# Altium integrated library altera.IntLib: 68 symbols (part 1 of 6)
Pins are listed as number, name and electrical type; pins without a type are passive.

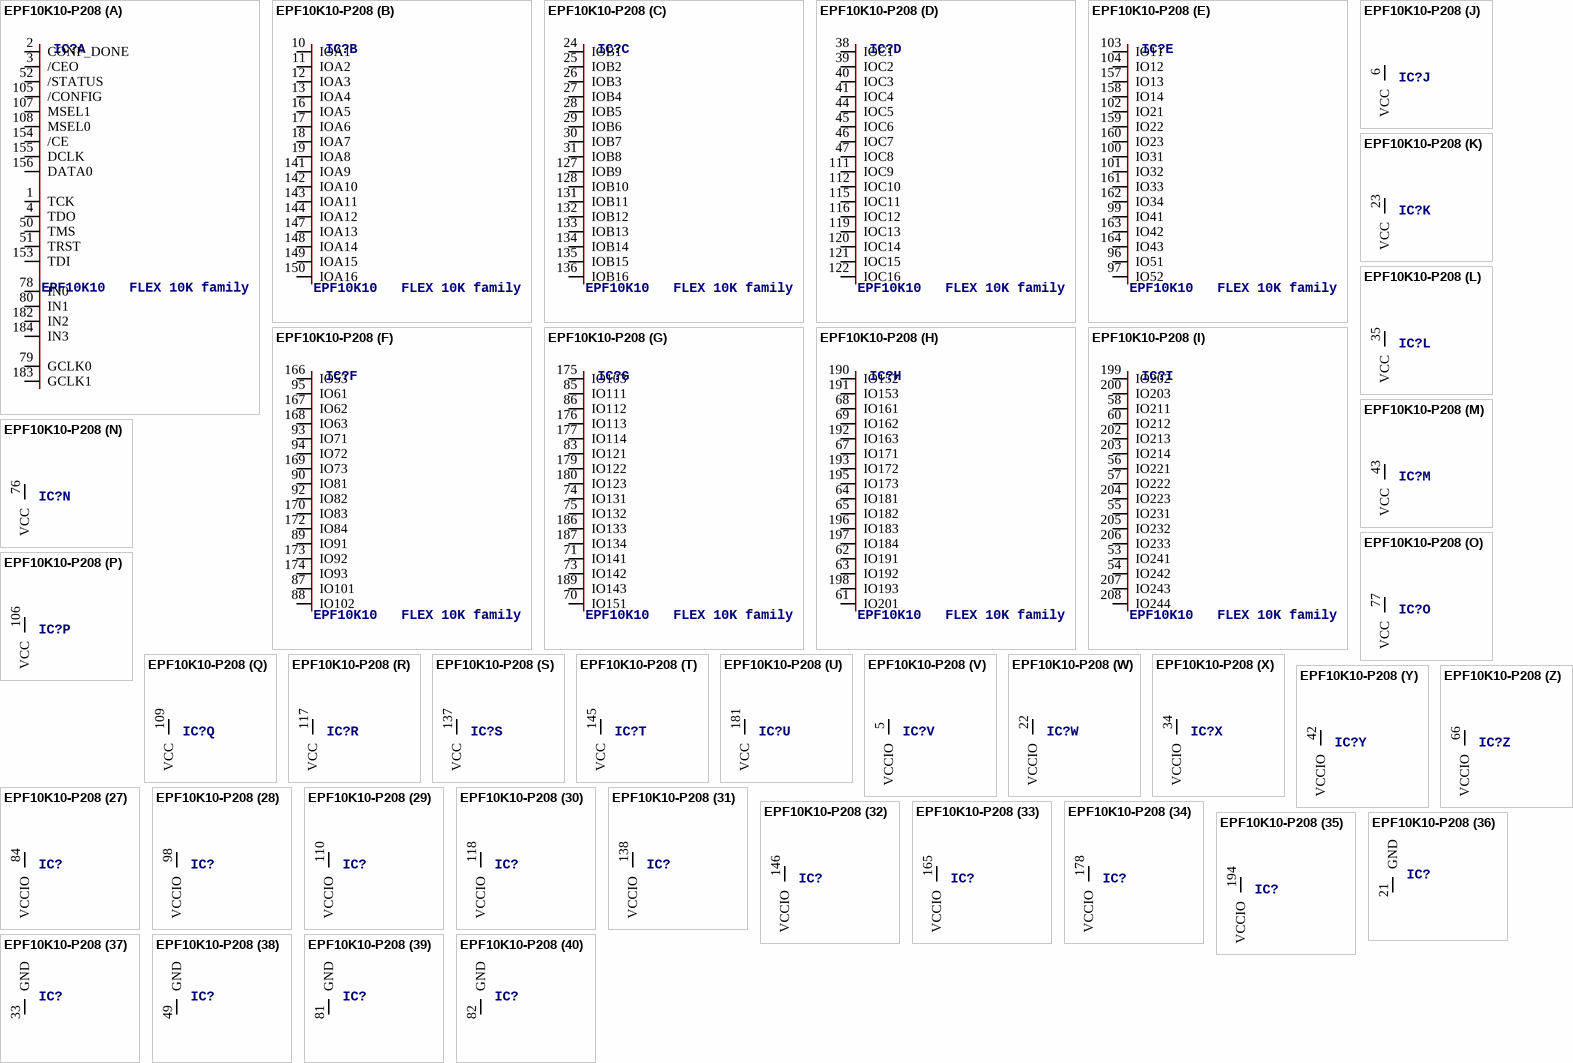
[diagram p0: symbol EPF10K10-P208]

## EPF10K10-P208
designator IC?, comment EPF10K10   FLEX 10K family
MPN: EPF10K10AQC208-3N; OC_FARNELL: 1549381; OC_NEWARK: 51R8749
footprint PQFP208
part A pins: 1 TCK, 2 CONF_DONE, 3 /CEO, 4 TDO, 50 TMS, 51 TRST, 52 /STATUS, 78 IN0, 79 GCLK0, 80 IN1, 105 /CONFIG, 107 MSEL1, 108 MSEL0, 153 TDI, 154 /CE, 155 DCLK, 156 DATA0, 182 IN2, 183 GCLK1, 184 IN3
part B pins: 10 IOA1, 11 IOA2, 12 IOA3, 13 IOA4, 16 IOA5, 17 IOA6, 18 IOA7, 19 IOA8, 141 IOA9, 142 IOA10, 143 IOA11, 144 IOA12, 147 IOA13, 148 IOA14, 149 IOA15, 150 IOA16
part C pins: 24 IOB1, 25 IOB2, 26 IOB3, 27 IOB4, 28 IOB5, 29 IOB6, 30 IOB7, 31 IOB8, 127 IOB9, 128 IOB10, 131 IOB11, 132 IOB12, 133 IOB13, 134 IOB14, 135 IOB15, 136 IOB16
part D pins: 38 IOC1, 39 IOC2, 40 IOC3, 41 IOC4, 44 IOC5, 45 IOC6, 46 IOC7, 47 IOC8, 111 IOC9, 112 IOC10, 115 IOC11, 116 IOC12, 119 IOC13, 120 IOC14, 121 IOC15, 122 IOC16
part E pins: 96 IO51, 97 IO52, 99 IO41, 100 IO31, 101 IO32, 102 IO21, 103 IO11, 104 IO12, 157 IO13, 158 IO14, 159 IO22, 160 IO23, 161 IO33, 162 IO34, 163 IO42, 164 IO43
part F pins: 87 IO101, 88 IO102, 89 IO91, 90 IO81, 92 IO82, 93 IO71, 94 IO72, 95 IO61, 166 IO53, 167 IO62, 168 IO63, 169 IO73, 170 IO83, 172 IO84, 173 IO92, 174 IO93
part G pins: 70 IO151, 71 IO141, 73 IO142, 74 IO131, 75 IO132, 83 IO121, 85 IO111, 86 IO112, 175 IO103, 176 IO113, 177 IO114, 179 IO122, 180 IO123, 186 IO133, 187 IO134, 189 IO143
part H pins: 61 IO201, 62 IO191, 63 IO192, 64 IO181, 65 IO182, 67 IO171, 68 IO161, 69 IO162, 190 IO152, 191 IO153, 192 IO163, 193 IO172, 195 IO173, 196 IO183, 197 IO184, 198 IO193
part I pins: 53 IO241, 54 IO242, 55 IO231, 56 IO221, 57 IO222, 58 IO211, 60 IO212, 199 IO202, 200 IO203, 202 IO213, 203 IO214, 204 IO223, 205 IO232, 206 IO233, 207 IO243, 208 IO244
part J pins: 6 VCC (power)
part K pins: 23 VCC (power)
part L pins: 35 VCC (power)
part M pins: 43 VCC (power)
part N pins: 76 VCC (power)
part O pins: 77 VCC (power)
part P pins: 106 VCC (power)
part Q pins: 109 VCC (power)
part R pins: 117 VCC (power)
part S pins: 137 VCC (power)
part T pins: 145 VCC (power)
part U pins: 181 VCC (power)
part V pins: 5 VCCIO (power)
part W pins: 22 VCCIO (power)
part X pins: 34 VCCIO (power)
part Y pins: 42 VCCIO (power)
part Z pins: 66 VCCIO (power)
part 27 pins: 84 VCCIO (power)
part 28 pins: 98 VCCIO (power)
part 29 pins: 110 VCCIO (power)
part 30 pins: 118 VCCIO (power)
part 31 pins: 138 VCCIO (power)
part 32 pins: 146 VCCIO (power)
part 33 pins: 165 VCCIO (power)
part 34 pins: 178 VCCIO (power)
part 35 pins: 194 VCCIO (power)
part 36 pins: 21 GND (power)
part 37 pins: 33 GND (power)
part 38 pins: 49 GND (power)
part 39 pins: 81 GND (power)
part 40 pins: 82 GND (power)
part 41 pins: 123 GND (power)
part 42 pins: 129 GND (power)
part 43 pins: 151 GND (power)
part 44 pins: 185 GND (power)
part 45 pins: 20 GNDIO (power)
part 46 pins: 32 GNDIO (power)
part 47 pins: 48 GNDIO (power)
part 48 pins: 59 GNDIO (power)
part 49 pins: 72 GNDIO (power)
part 50 pins: 91 GNDIO (power)
part 51 pins: 124 GNDIO (power)
part 52 pins: 130 GNDIO (power)
part 53 pins: 152 GNDIO (power)
part 54 pins: 171 GNDIO (power)
part 55 pins: 188 GNDIO (power)
part 56 pins: 201 GNDIO (power)
part 57 pins: 7 NC
part 58 pins: 8 NC
part 59 pins: 9 NC
part 60 pins: 14 NC
part 61 pins: 15 NC
part 62 pins: 36 NC
part 63 pins: 37 NC
part 64 pins: 113 NC
part 65 pins: 114 NC
part 66 pins: 125 NC
part 67 pins: 126 NC
part 68 pins: 139 NC
part 69 pins: 140 NC

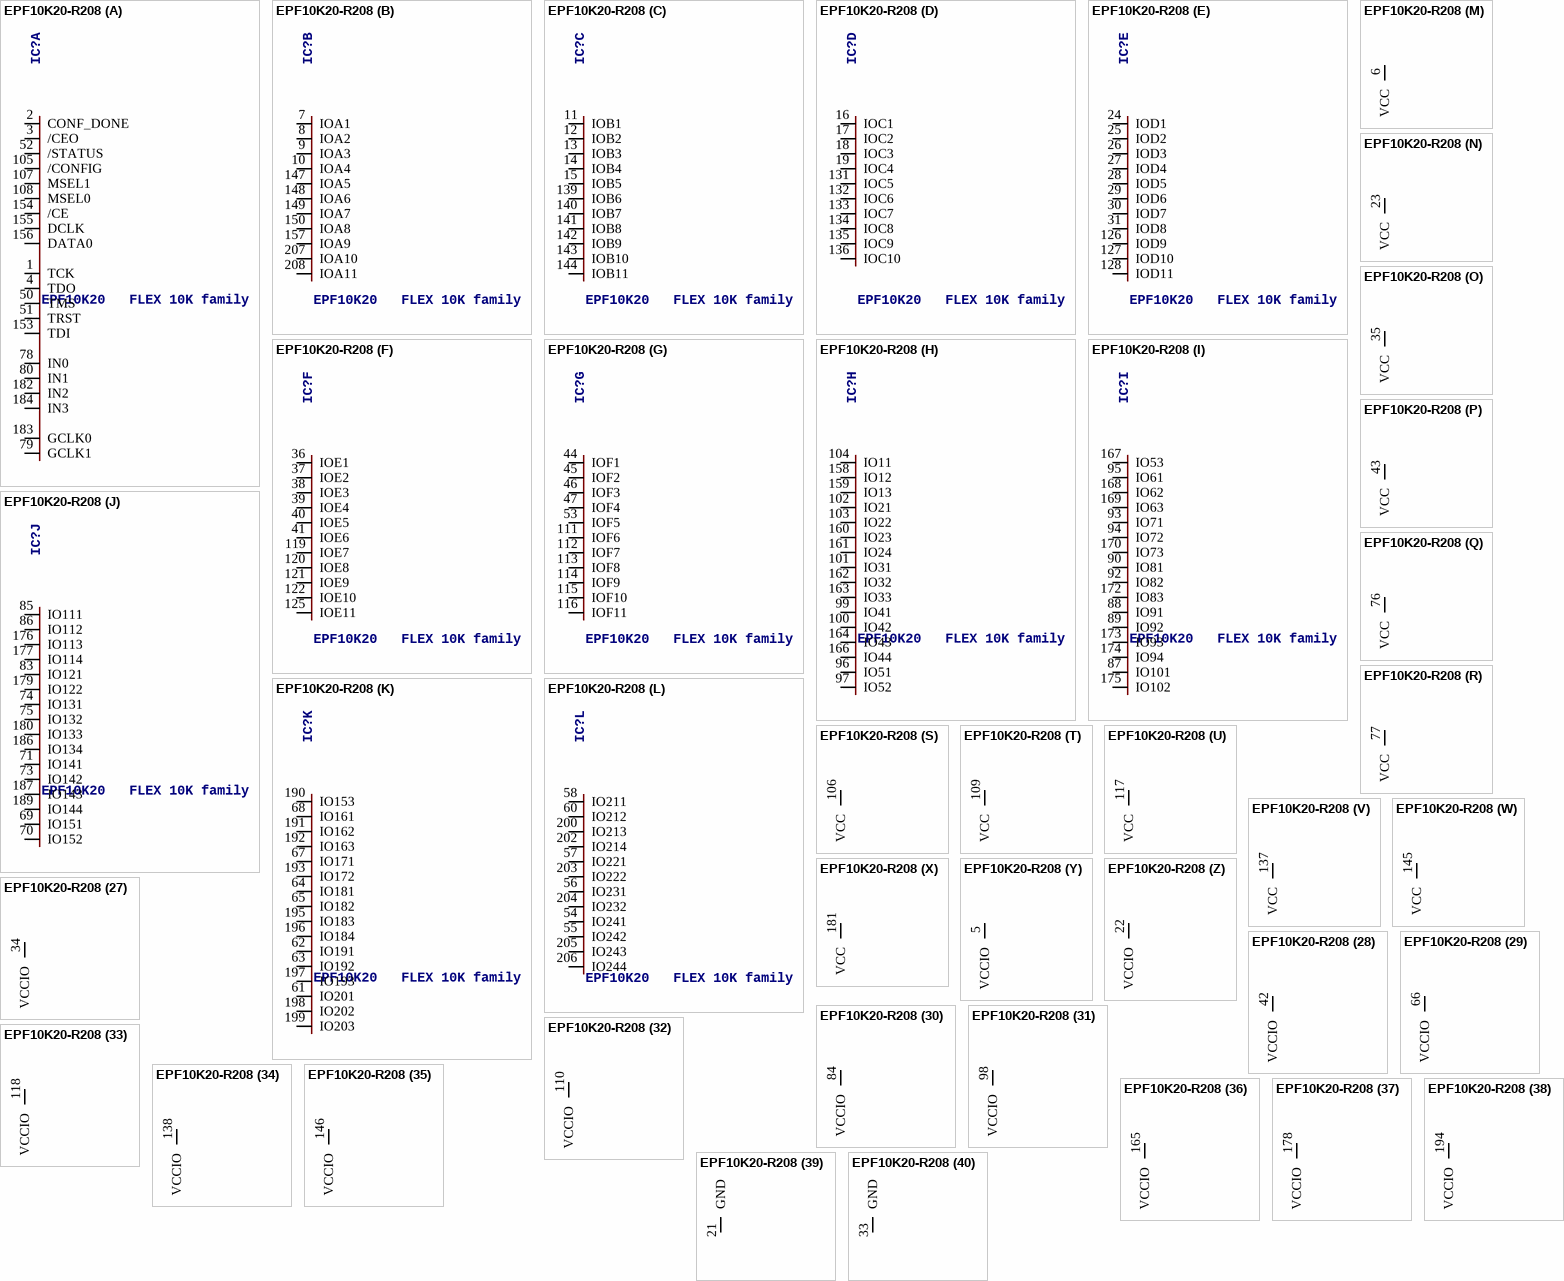
[diagram p1: symbol EPF10K20-R208]

## EPF10K20-R208
designator IC?, comment EPF10K20   FLEX 10K family
MPN: EPF10K20RC208-3N; OC_FARNELL: 1549383; OC_NEWARK: 51R8880
footprint RQFP208
part A pins: 1 TCK, 2 CONF_DONE, 3 /CEO, 4 TDO, 50 TMS, 51 TRST, 52 /STATUS, 78 IN0, 79 GCLK1, 80 IN1, 105 /CONFIG, 107 MSEL1, 108 MSEL0, 153 TDI, 154 /CE, 155 DCLK, 156 DATA0, 182 IN2, 183 GCLK0, 184 IN3
part B pins: 7 IOA1, 8 IOA2, 9 IOA3, 10 IOA4, 147 IOA5, 148 IOA6, 149 IOA7, 150 IOA8, 157 IOA9, 207 IOA10, 208 IOA11
part C pins: 11 IOB1, 12 IOB2, 13 IOB3, 14 IOB4, 15 IOB5, 139 IOB6, 140 IOB7, 141 IOB8, 142 IOB9, 143 IOB10, 144 IOB11
part D pins: 16 IOC1, 17 IOC2, 18 IOC3, 19 IOC4, 131 IOC5, 132 IOC6, 133 IOC7, 134 IOC8, 135 IOC9, 136 IOC10
part E pins: 24 IOD1, 25 IOD2, 26 IOD3, 27 IOD4, 28 IOD5, 29 IOD6, 30 IOD7, 31 IOD8, 126 IOD9, 127 IOD10, 128 IOD11
part F pins: 36 IOE1, 37 IOE2, 38 IOE3, 39 IOE4, 40 IOE5, 41 IOE6, 119 IOE7, 120 IOE8, 121 IOE9, 122 IOE10, 125 IOE11
part G pins: 44 IOF1, 45 IOF2, 46 IOF3, 47 IOF4, 53 IOF5, 111 IOF6, 112 IOF7, 113 IOF8, 114 IOF9, 115 IOF10, 116 IOF11
part H pins: 96 IO51, 97 IO52, 99 IO41, 100 IO42, 101 IO31, 102 IO21, 103 IO22, 104 IO11, 158 IO12, 159 IO13, 160 IO23, 161 IO24, 162 IO32, 163 IO33, 164 IO43, 166 IO44
part I pins: 87 IO101, 88 IO91, 89 IO92, 90 IO81, 92 IO82, 93 IO71, 94 IO72, 95 IO61, 167 IO53, 168 IO62, 169 IO63, 170 IO73, 172 IO83, 173 IO93, 174 IO94, 175 IO102
part J pins: 69 IO151, 70 IO152, 71 IO141, 73 IO142, 74 IO131, 75 IO132, 83 IO121, 85 IO111, 86 IO112, 176 IO113, 177 IO114, 179 IO122, 180 IO133, 186 IO134, 187 IO143, 189 IO144
part K pins: 61 IO201, 62 IO191, 63 IO192, 64 IO181, 65 IO182, 67 IO171, 68 IO161, 190 IO153, 191 IO162, 192 IO163, 193 IO172, 195 IO183, 196 IO184, 197 IO193, 198 IO202, 199 IO203
part L pins: 54 IO241, 55 IO242, 56 IO231, 57 IO221, 58 IO211, 60 IO212, 200 IO213, 202 IO214, 203 IO222, 204 IO232, 205 IO243, 206 IO244
part M pins: 6 VCC (power)
part N pins: 23 VCC (power)
part O pins: 35 VCC (power)
part P pins: 43 VCC (power)
part Q pins: 76 VCC (power)
part R pins: 77 VCC (power)
part S pins: 106 VCC (power)
part T pins: 109 VCC (power)
part U pins: 117 VCC (power)
part V pins: 137 VCC (power)
part W pins: 145 VCC (power)
part X pins: 181 VCC (power)
part Y pins: 5 VCCIO (power)
part Z pins: 22 VCCIO (power)
part 27 pins: 34 VCCIO (power)
part 28 pins: 42 VCCIO (power)
part 29 pins: 66 VCCIO (power)
part 30 pins: 84 VCCIO (power)
part 31 pins: 98 VCCIO (power)
part 32 pins: 110 VCCIO (power)
part 33 pins: 118 VCCIO (power)
part 34 pins: 138 VCCIO (power)
part 35 pins: 146 VCCIO (power)
part 36 pins: 165 VCCIO (power)
part 37 pins: 178 VCCIO (power)
part 38 pins: 194 VCCIO (power)
part 39 pins: 21 GND (power)
part 40 pins: 33 GND (power)
part 41 pins: 49 GND (power)
part 42 pins: 81 GND (power)
part 43 pins: 82 GND (power)
part 44 pins: 123 GND (power)
part 45 pins: 129 GND (power)
part 46 pins: 151 GND (power)
part 47 pins: 185 GND (power)
part 48 pins: 20 GNDIO (power)
part 49 pins: 32 GNDIO (power)
part 50 pins: 48 GNDIO (power)
part 51 pins: 59 GNDIO (power)
part 52 pins: 72 GNDIO (power)
part 53 pins: 91 GNDIO (power)
part 54 pins: 124 GNDIO (power)
part 55 pins: 130 GNDIO (power)
part 56 pins: 152 GNDIO (power)
part 57 pins: 171 GNDIO (power)
part 58 pins: 188 GNDIO (power)
part 59 pins: 201 GNDIO (power)

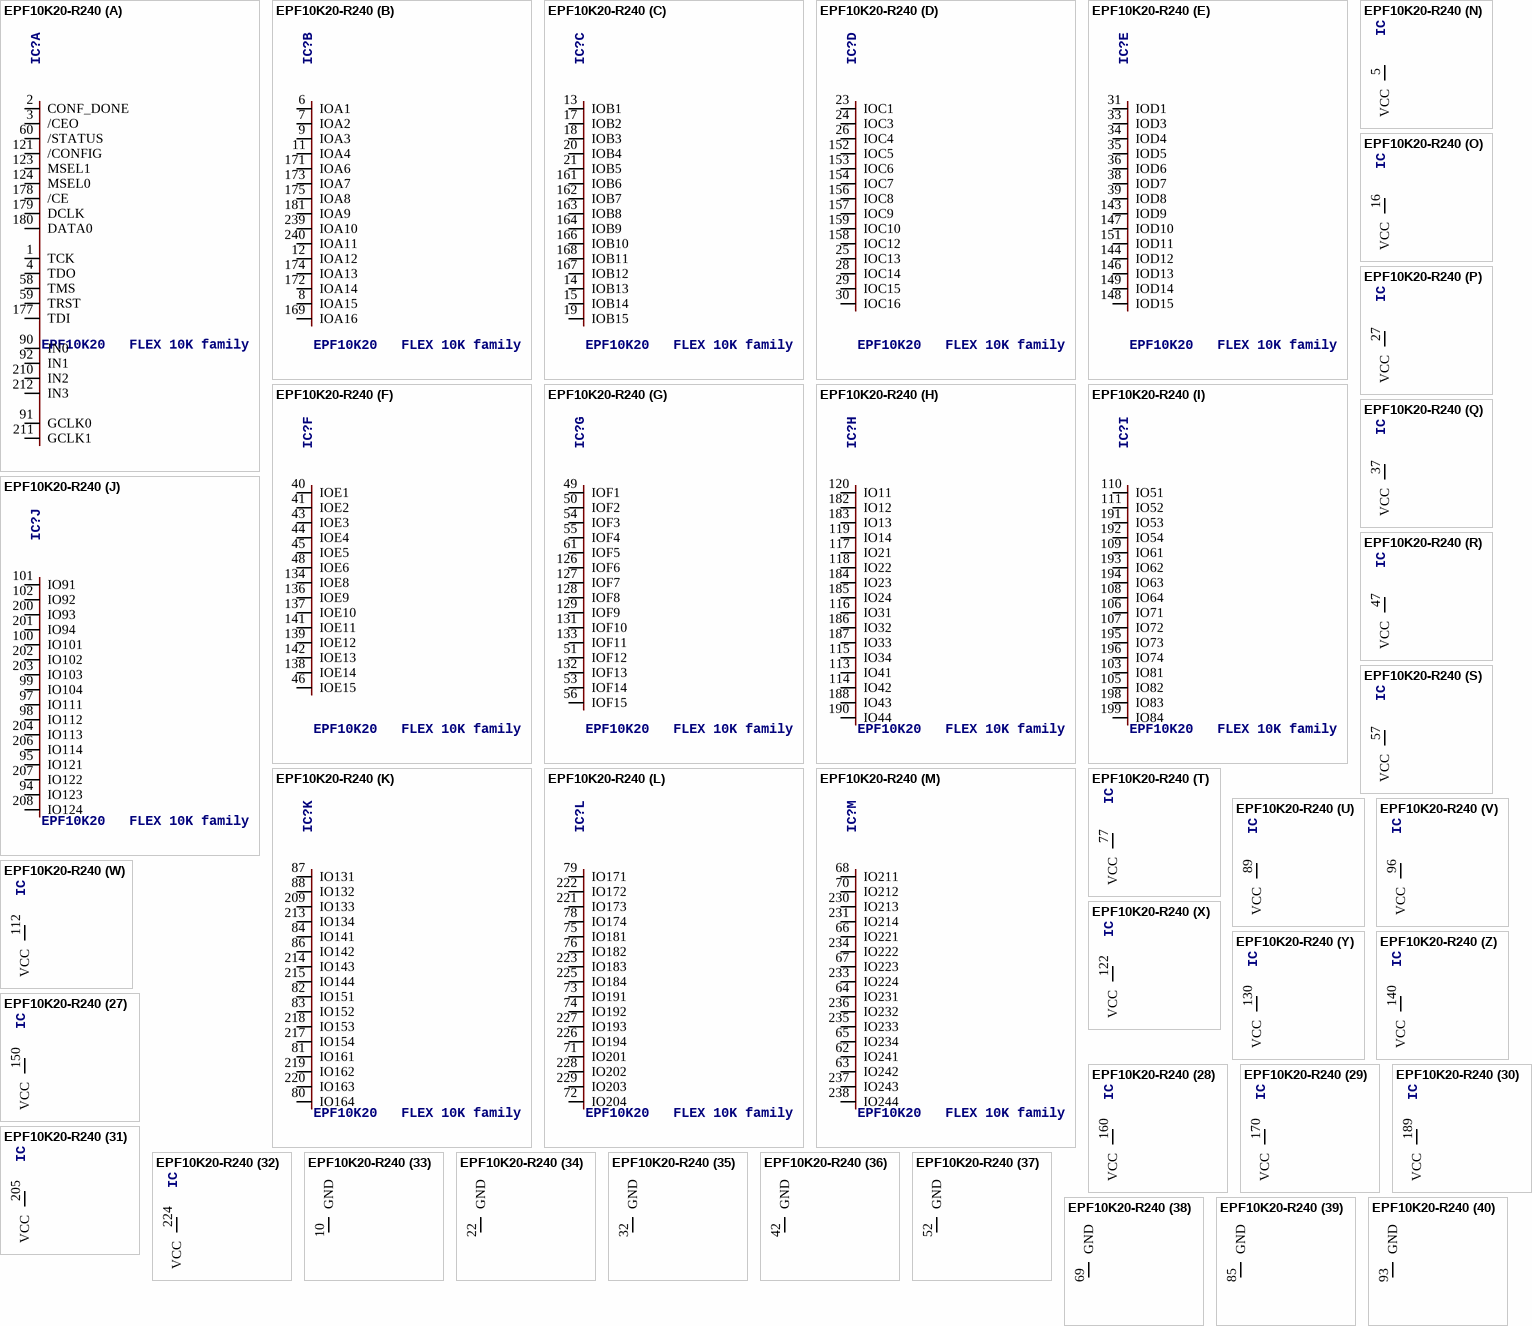
[diagram p2: symbol EPF10K20-R240]

## EPF10K20-R240
designator IC?, comment EPF10K20   FLEX 10K family
MPN: EPF10K20RC240-3N; OC_FARNELL: unknown; OC_NEWARK: 51R8884
footprint RQFP240
part A pins: 1 TCK, 2 CONF_DONE, 3 /CEO, 4 TDO, 58 TMS, 59 TRST, 60 /STATUS, 90 IN0, 91 GCLK0, 92 IN1, 121 /CONFIG, 123 MSEL1, 124 MSEL0, 177 TDI, 178 /CE, 179 DCLK, 180 DATA0, 210 IN2, 211 GCLK1, 212 IN3
part B pins: 6 IOA1, 7 IOA2, 8 IOA15, 9 IOA3, 11 IOA4, 12 IOA12, 169 IOA16, 171 IOA6, 172 IOA14, 173 IOA7, 174 IOA13, 175 IOA8, 181 IOA9, 239 IOA10, 240 IOA11
part C pins: 13 IOB1, 14 IOB13, 15 IOB14, 17 IOB2, 18 IOB3, 19 IOB15, 20 IOB4, 21 IOB5, 161 IOB6, 162 IOB7, 163 IOB8, 164 IOB9, 166 IOB10, 167 IOB12, 168 IOB11
part D pins: 23 IOC1, 24 IOC3, 25 IOC13, 26 IOC4, 28 IOC14, 29 IOC15, 30 IOC16, 152 IOC5, 153 IOC6, 154 IOC7, 156 IOC8, 157 IOC9, 158 IOC12, 159 IOC10
part E pins: 31 IOD1, 33 IOD3, 34 IOD4, 35 IOD5, 36 IOD6, 38 IOD7, 39 IOD8, 143 IOD9, 144 IOD12, 146 IOD13, 147 IOD10, 148 IOD15, 149 IOD14, 151 IOD11
part F pins: 40 IOE1, 41 IOE2, 43 IOE3, 44 IOE4, 45 IOE5, 46 IOE15, 48 IOE6, 134 IOE8, 136 IOE9, 137 IOE10, 138 IOE14, 139 IOE12, 141 IOE11, 142 IOE13
part G pins: 49 IOF1, 50 IOF2, 51 IOF12, 53 IOF14, 54 IOF3, 55 IOF4, 56 IOF15, 61 IOF5, 126 IOF6, 127 IOF7, 128 IOF8, 129 IOF9, 131 IOF10, 132 IOF13, 133 IOF11
part H pins: 113 IO41, 114 IO42, 115 IO34, 116 IO31, 117 IO21, 118 IO22, 119 IO14, 120 IO11, 182 IO12, 183 IO13, 184 IO23, 185 IO24, 186 IO32, 187 IO33, 188 IO43, 190 IO44
part I pins: 103 IO81, 105 IO82, 106 IO71, 107 IO72, 108 IO64, 109 IO61, 110 IO51, 111 IO52, 191 IO53, 192 IO54, 193 IO62, 194 IO63, 195 IO73, 196 IO74, 198 IO83, 199 IO84
part J pins: 94 IO123, 95 IO121, 97 IO111, 98 IO112, 99 IO104, 100 IO101, 101 IO91, 102 IO92, 200 IO93, 201 IO94, 202 IO102, 203 IO103, 204 IO113, 206 IO114, 207 IO122, 208 IO124
part K pins: 80 IO164, 81 IO161, 82 IO151, 83 IO152, 84 IO141, 86 IO142, 87 IO131, 88 IO132, 209 IO133, 213 IO134, 214 IO143, 215 IO144, 217 IO154, 218 IO153, 219 IO162, 220 IO163
part L pins: 71 IO201, 72 IO204, 73 IO191, 74 IO192, 75 IO181, 76 IO182, 78 IO174, 79 IO171, 221 IO173, 222 IO172, 223 IO183, 225 IO184, 226 IO194, 227 IO193, 228 IO202, 229 IO203
part M pins: 62 IO241, 63 IO242, 64 IO231, 65 IO234, 66 IO221, 67 IO223, 68 IO211, 70 IO212, 230 IO213, 231 IO214, 233 IO224, 234 IO222, 235 IO233, 236 IO232, 237 IO243, 238 IO244
part N pins: 5 VCC (power)
part O pins: 16 VCC (power)
part P pins: 27 VCC (power)
part Q pins: 37 VCC (power)
part R pins: 47 VCC (power)
part S pins: 57 VCC (power)
part T pins: 77 VCC (power)
part U pins: 89 VCC (power)
part V pins: 96 VCC (power)
part W pins: 112 VCC (power)
part X pins: 122 VCC (power)
part Y pins: 130 VCC (power)
part Z pins: 140 VCC (power)
part 27 pins: 150 VCC (power)
part 28 pins: 160 VCC (power)
part 29 pins: 170 VCC (power)
part 30 pins: 189 VCC (power)
part 31 pins: 205 VCC (power)
part 32 pins: 224 VCC (power)
part 33 pins: 10 GND (power)
part 34 pins: 22 GND (power)
part 35 pins: 32 GND (power)
part 36 pins: 42 GND (power)
part 37 pins: 52 GND (power)
part 38 pins: 69 GND (power)
part 39 pins: 85 GND (power)
part 40 pins: 93 GND (power)
part 41 pins: 104 GND (power)
part 42 pins: 125 GND (power)
part 43 pins: 135 GND (power)
part 44 pins: 145 GND (power)
part 45 pins: 155 GND (power)
part 46 pins: 165 GND (power)
part 47 pins: 176 GND (power)
part 48 pins: 197 GND (power)
part 49 pins: 216 GND (power)
part 50 pins: 232 GND (power)

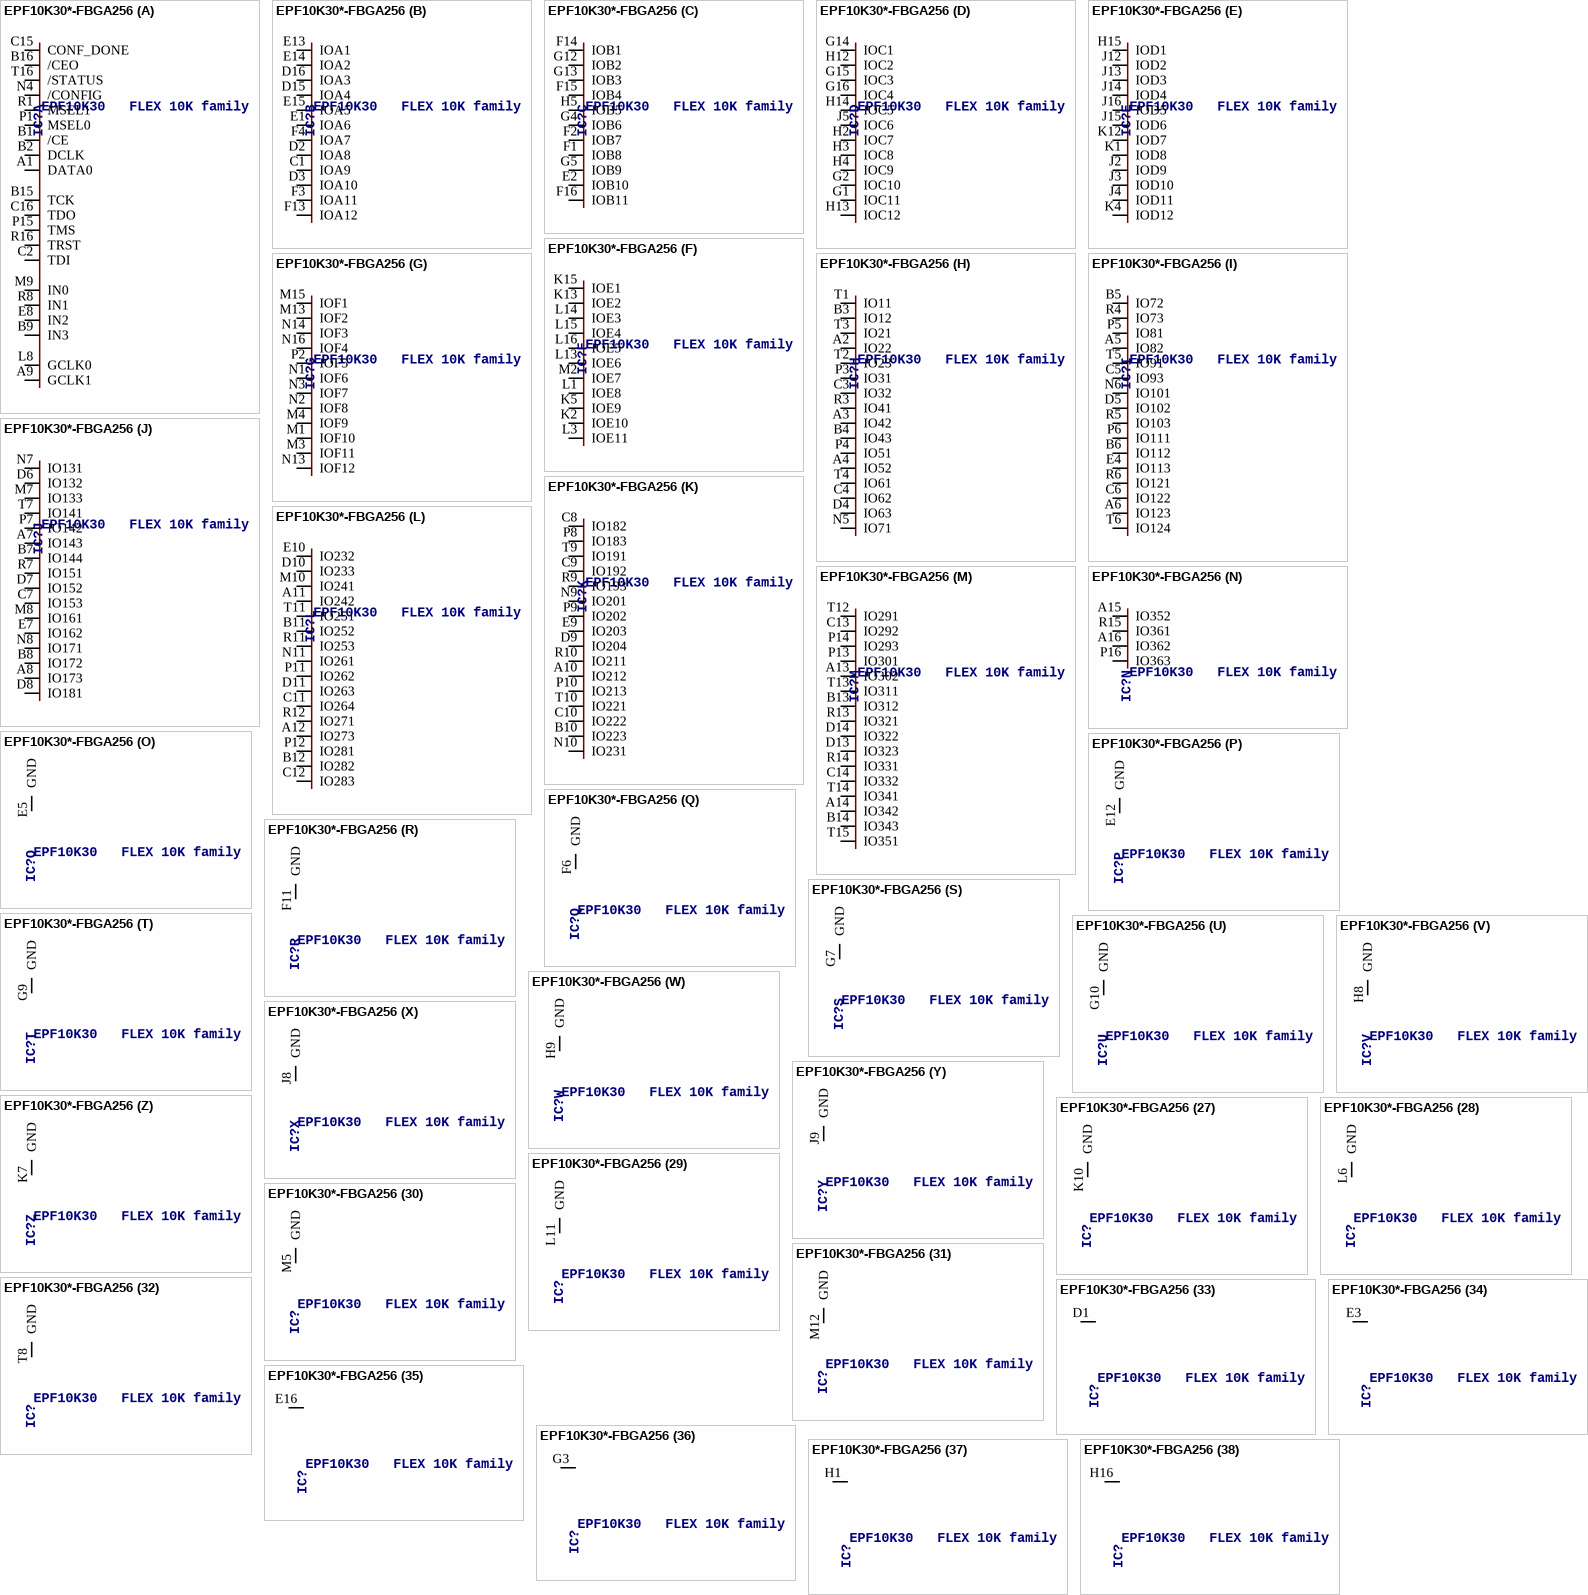
[diagram p3: symbol EPF10K30*-FBGA256]

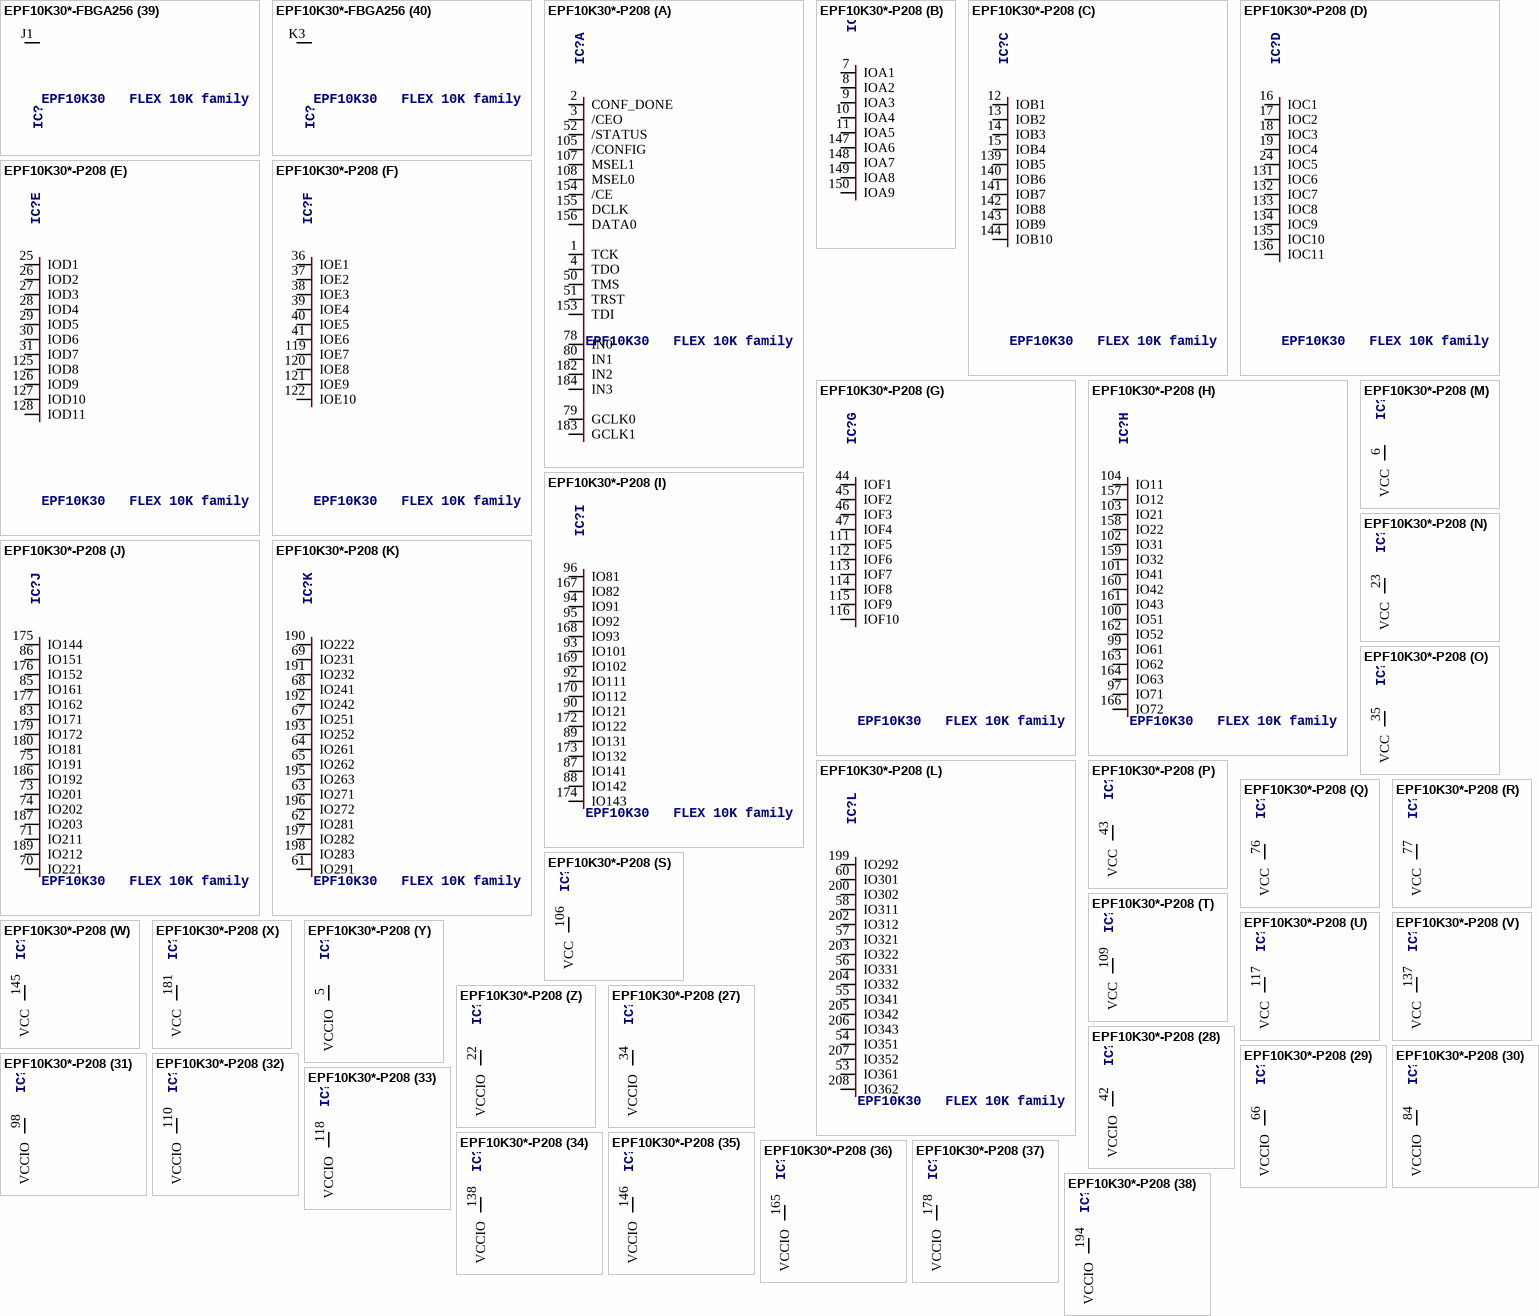
[diagram p4: symbols EPF10K30*-FBGA256 to EPF10K30*-P208]

## EPF10K30*-FBGA256
designator IC?, comment EPF10K30   FLEX 10K family
MPN: EPF10K30EFC256-3N; MPN: EPF10K30AQC240-3N; OC_FARNELL: 1549394; OC_NEWARK: 51R8977; OC_FARNELL: 1549384; OC_NEWARK: 51R8956
footprint FBGA256
part A pins: A1 DATA0, A9 GCLK1, B1 /CE, B2 DCLK, B9 IN3, B15 TCK, B16 /CEO, C2 TDI, C15 CONF_DONE, C16 TDO, E8 IN2, L8 GCLK0, M9 IN0, N4 /CONFIG, P1 MSEL0, P15 TMS, R1 MSEL1, R8 IN1, R16 TRST, T16 /STATUS
part B pins: C1 IOA9, D2 IOA8, D3 IOA10, D15 IOA4, D16 IOA3, E1 IOA6, E13 IOA1, E14 IOA2, E15 IOA5, F3 IOA11, F4 IOA7, F13 IOA12
part C pins: E2 IOB10, F1 IOB8, F2 IOB7, F14 IOB1, F15 IOB4, F16 IOB11, G4 IOB6, G5 IOB9, G12 IOB2, G13 IOB3, H5 IOB5
part D pins: G1 IOC11, G2 IOC10, G14 IOC1, G15 IOC3, G16 IOC4, H2 IOC7, H3 IOC8, H4 IOC9, H12 IOC2, H13 IOC12, H14 IOC5, J5 IOC6
part E pins: H15 IOD1, J2 IOD9, J3 IOD10, J4 IOD11, J12 IOD2, J13 IOD3, J14 IOD4, J15 IOD6, J16 IOD5, K1 IOD8, K4 IOD12, K12 IOD7
part F pins: K2 IOE10, K5 IOE9, K13 IOE2, K15 IOE1, L1 IOE8, L3 IOE11, L13 IOE6, L14 IOE3, L15 IOE4, L16 IOE5, M2 IOE7
part G pins: M1 IOF10, M3 IOF11, M4 IOF9, M13 IOF2, M15 IOF1, N1 IOF6, N2 IOF8, N3 IOF7, N13 IOF12, N14 IOF3, N16 IOF4, P2 IOF5
part H pins: A2 IO22, A3 IO42, A4 IO52, B3 IO12, B4 IO43, C3 IO32, C4 IO62, D4 IO63, N5 IO71, P3 IO31, P4 IO51, R3 IO41, T1 IO11, T2 IO23, T3 IO21, T4 IO61
part I pins: A5 IO82, A6 IO123, B5 IO72, B6 IO112, C5 IO93, C6 IO122, D5 IO102, E4 IO113, N6 IO101, P5 IO81, P6 IO111, R4 IO73, R5 IO103, R6 IO121, T5 IO91, T6 IO124
part J pins: A7 IO143, A8 IO173, B7 IO144, B8 IO172, C7 IO153, D6 IO132, D7 IO152, D8 IO181, E7 IO162, M7 IO133, M8 IO161, N7 IO131, N8 IO171, P7 IO142, R7 IO151, T7 IO141
part K pins: A10 IO212, B10 IO223, C8 IO182, C9 IO192, C10 IO222, D9 IO204, E9 IO203, N9 IO201, N10 IO231, P8 IO183, P9 IO202, P10 IO213, R9 IO193, R10 IO211, T9 IO191, T10 IO221
part L pins: A11 IO242, A12 IO273, B11 IO252, B12 IO282, C11 IO264, C12 IO283, D10 IO233, D11 IO263, E10 IO232, M10 IO241, N11 IO261, P11 IO262, P12 IO281, R11 IO253, R12 IO271, T11 IO251
part M pins: A13 IO302, A14 IO342, B13 IO312, B14 IO343, C13 IO292, C14 IO332, D13 IO323, D14 IO322, P13 IO301, P14 IO293, R13 IO321, R14 IO331, T12 IO291, T13 IO311, T14 IO341, T15 IO351
part N pins: A15 IO352, A16 IO362, P16 IO363, R15 IO361
part O pins: E5 GND (power)
part P pins: E12 GND (power)
part Q pins: F6 GND (power)
part R pins: F11 GND (power)
part S pins: G7 GND (power)
part T pins: G9 GND (power)
part U pins: G10 GND (power)
part V pins: H8 GND (power)
part W pins: H9 GND (power)
part X pins: J8 GND (power)
part Y pins: J9 GND (power)
part Z pins: K7 GND (power)
part 27 pins: K10 GND (power)
part 28 pins: L6 GND (power)
part 29 pins: L11 GND (power)
part 30 pins: M5 GND (power)
part 31 pins: M12 GND (power)
part 32 pins: T8 GND (power)
part 33 pins: D1 NC
part 34 pins: E3 NC
part 35 pins: E16 NC
part 36 pins: G3 NC
part 37 pins: H1 NC
part 38 pins: H16 NC
part 39 pins: J1 NC
part 40 pins: K3 NC
part 41 pins: K14 NC
part 42 pins: K16 NC
part 43 pins: L2 NC
part 44 pins: L4 NC
part 45 pins: M14 NC
part 46 pins: M16 NC
part 47 pins: N15 NC
part 48 pins: E11 VCC (power)
part 49 pins: F5 VCC (power)
part 50 pins: F7 VCC (power)
part 51 pins: F9 VCC (power)
part 52 pins: F12 VCC (power)
part 53 pins: H6 VCC (power)
part 54 pins: H7 VCC (power)
part 55 pins: H10 VCC (power)
part 56 pins: J7 VCC (power)
part 57 pins: J10 VCC (power)
part 58 pins: J11 VCC (power)
part 59 pins: K9 VCC (power)
part 60 pins: L5 VCC (power)
part 61 pins: L7 VCC (power)
part 62 pins: L9 VCC (power)
part 63 pins: L12 VCC (power)
part 64 pins: M11 VCC (power)
part 65 pins: R2 VCC (power)
part 66 pins: D12 VCCIO (power)
part 67 pins: E6 VCCIO (power)
part 68 pins: F8 VCCIO (power)
part 69 pins: F10 VCCIO (power)
part 70 pins: G6 VCCIO (power)
part 71 pins: G8 VCCIO (power)
part 72 pins: G11 VCCIO (power)
part 73 pins: H11 VCCIO (power)
part 74 pins: J6 VCCIO (power)
part 75 pins: K6 VCCIO (power)
part 76 pins: K8 VCCIO (power)
part 77 pins: K11 VCCIO (power)
part 78 pins: L10 VCCIO (power)
part 79 pins: M6 VCCIO (power)
part 80 pins: N12 VCCIO (power)

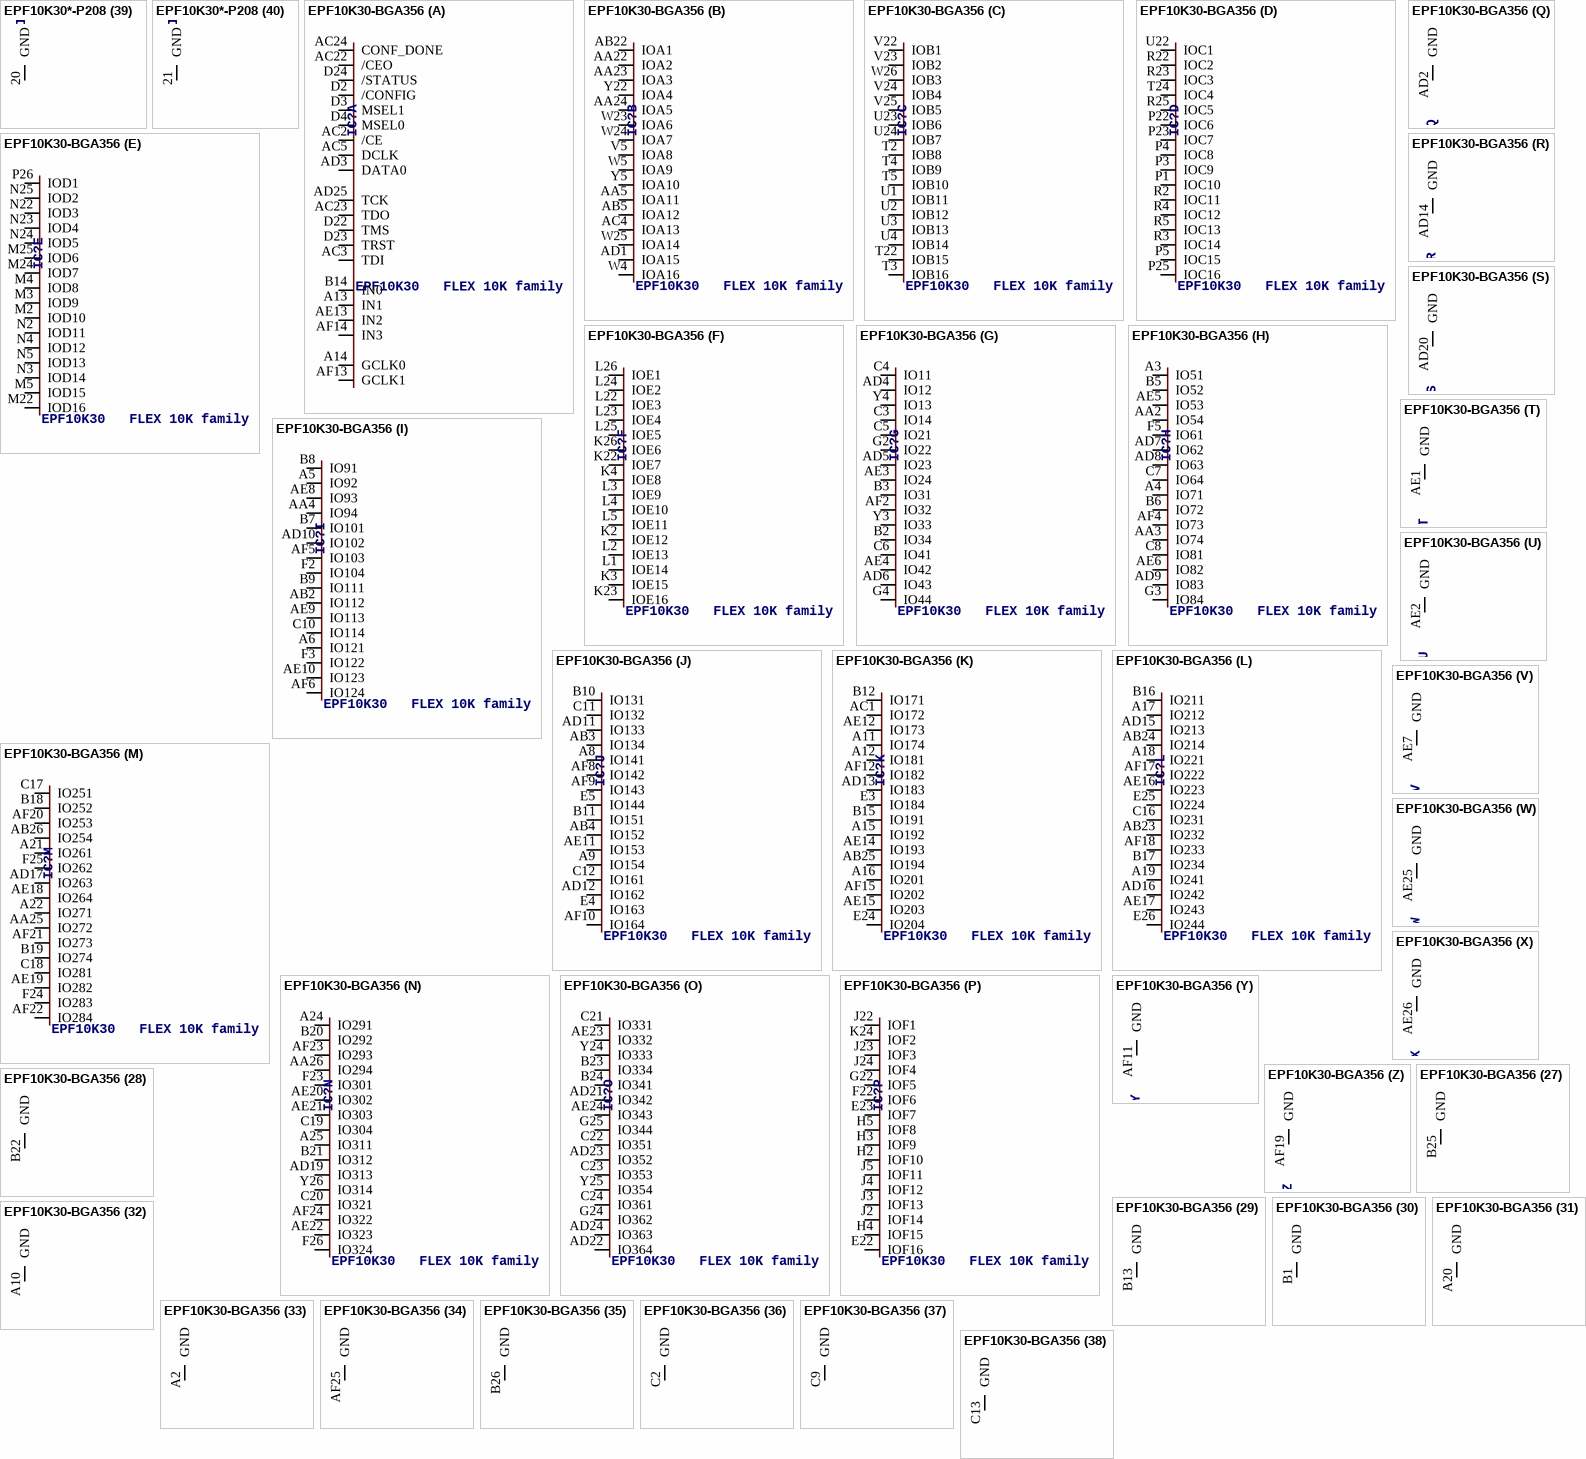
[diagram p5: symbols EPF10K30*-P208 to EPF10K30-BGA356]

## EPF10K30*-P208
designator IC?, comment EPF10K30   FLEX 10K family
MPN: EPF10K30EQC208-2N; MPN: EPF10K30AQI208-3N; OC_FARNELL: 1549382; OC_NEWARK: 51R8987; OC_FARNELL: unknown; OC_NEWARK: 51R8958
footprint PQFP208
part A pins: 1 TCK, 2 CONF_DONE, 3 /CEO, 4 TDO, 50 TMS, 51 TRST, 52 /STATUS, 78 IN0, 79 GCLK0, 80 IN1, 105 /CONFIG, 107 MSEL1, 108 MSEL0, 153 TDI, 154 /CE, 155 DCLK, 156 DATA0, 182 IN2, 183 GCLK1, 184 IN3
part B pins: 7 IOA1, 8 IOA2, 9 IOA3, 10 IOA4, 11 IOA5, 147 IOA6, 148 IOA7, 149 IOA8, 150 IOA9
part C pins: 12 IOB1, 13 IOB2, 14 IOB3, 15 IOB4, 139 IOB5, 140 IOB6, 141 IOB7, 142 IOB8, 143 IOB9, 144 IOB10
part D pins: 16 IOC1, 17 IOC2, 18 IOC3, 19 IOC4, 24 IOC5, 131 IOC6, 132 IOC7, 133 IOC8, 134 IOC9, 135 IOC10, 136 IOC11
part E pins: 25 IOD1, 26 IOD2, 27 IOD3, 28 IOD4, 29 IOD5, 30 IOD6, 31 IOD7, 125 IOD8, 126 IOD9, 127 IOD10, 128 IOD11
part F pins: 36 IOE1, 37 IOE2, 38 IOE3, 39 IOE4, 40 IOE5, 41 IOE6, 119 IOE7, 120 IOE8, 121 IOE9, 122 IOE10
part G pins: 44 IOF1, 45 IOF2, 46 IOF3, 47 IOF4, 111 IOF5, 112 IOF6, 113 IOF7, 114 IOF8, 115 IOF9, 116 IOF10
part H pins: 97 IO71, 99 IO61, 100 IO51, 101 IO41, 102 IO31, 103 IO21, 104 IO11, 157 IO12, 158 IO22, 159 IO32, 160 IO42, 161 IO43, 162 IO52, 163 IO62, 164 IO63, 166 IO72
part I pins: 87 IO141, 88 IO142, 89 IO131, 90 IO121, 92 IO111, 93 IO101, 94 IO91, 95 IO92, 96 IO81, 167 IO82, 168 IO93, 169 IO102, 170 IO112, 172 IO122, 173 IO132, 174 IO143
part J pins: 70 IO221, 71 IO211, 73 IO201, 74 IO202, 75 IO191, 83 IO171, 85 IO161, 86 IO151, 175 IO144, 176 IO152, 177 IO162, 179 IO172, 180 IO181, 186 IO192, 187 IO203, 189 IO212
part K pins: 61 IO291, 62 IO281, 63 IO271, 64 IO261, 65 IO262, 67 IO251, 68 IO241, 69 IO231, 190 IO222, 191 IO232, 192 IO242, 193 IO252, 195 IO263, 196 IO272, 197 IO282, 198 IO283
part L pins: 53 IO361, 54 IO351, 55 IO341, 56 IO331, 57 IO321, 58 IO311, 60 IO301, 199 IO292, 200 IO302, 202 IO312, 203 IO322, 204 IO332, 205 IO342, 206 IO343, 207 IO352, 208 IO362
part M pins: 6 VCC (power)
part N pins: 23 VCC (power)
part O pins: 35 VCC (power)
part P pins: 43 VCC (power)
part Q pins: 76 VCC (power)
part R pins: 77 VCC (power)
part S pins: 106 VCC (power)
part T pins: 109 VCC (power)
part U pins: 117 VCC (power)
part V pins: 137 VCC (power)
part W pins: 145 VCC (power)
part X pins: 181 VCC (power)
part Y pins: 5 VCCIO (power)
part Z pins: 22 VCCIO (power)
part 27 pins: 34 VCCIO (power)
part 28 pins: 42 VCCIO (power)
part 29 pins: 66 VCCIO (power)
part 30 pins: 84 VCCIO (power)
part 31 pins: 98 VCCIO (power)
part 32 pins: 110 VCCIO (power)
part 33 pins: 118 VCCIO (power)
part 34 pins: 138 VCCIO (power)
part 35 pins: 146 VCCIO (power)
part 36 pins: 165 VCCIO (power)
part 37 pins: 178 VCCIO (power)
part 38 pins: 194 VCCIO (power)
part 39 pins: 20 GND (power)
part 40 pins: 21 GND (power)
part 41 pins: 32 GND (power)
part 42 pins: 33 GND (power)
part 43 pins: 48 GND (power)
part 44 pins: 49 GND (power)
part 45 pins: 59 GND (power)
part 46 pins: 72 GND (power)
part 47 pins: 81 GND (power)
part 48 pins: 82 GND (power)
part 49 pins: 91 GND (power)
part 50 pins: 123 GND (power)
part 51 pins: 124 GND (power)
part 52 pins: 129 GND (power)
part 53 pins: 130 GND (power)
part 54 pins: 151 GND (power)
part 55 pins: 152 GND (power)
part 56 pins: 171 GND (power)
part 57 pins: 185 GND (power)
part 58 pins: 188 GND (power)
part 59 pins: 201 GND (power)

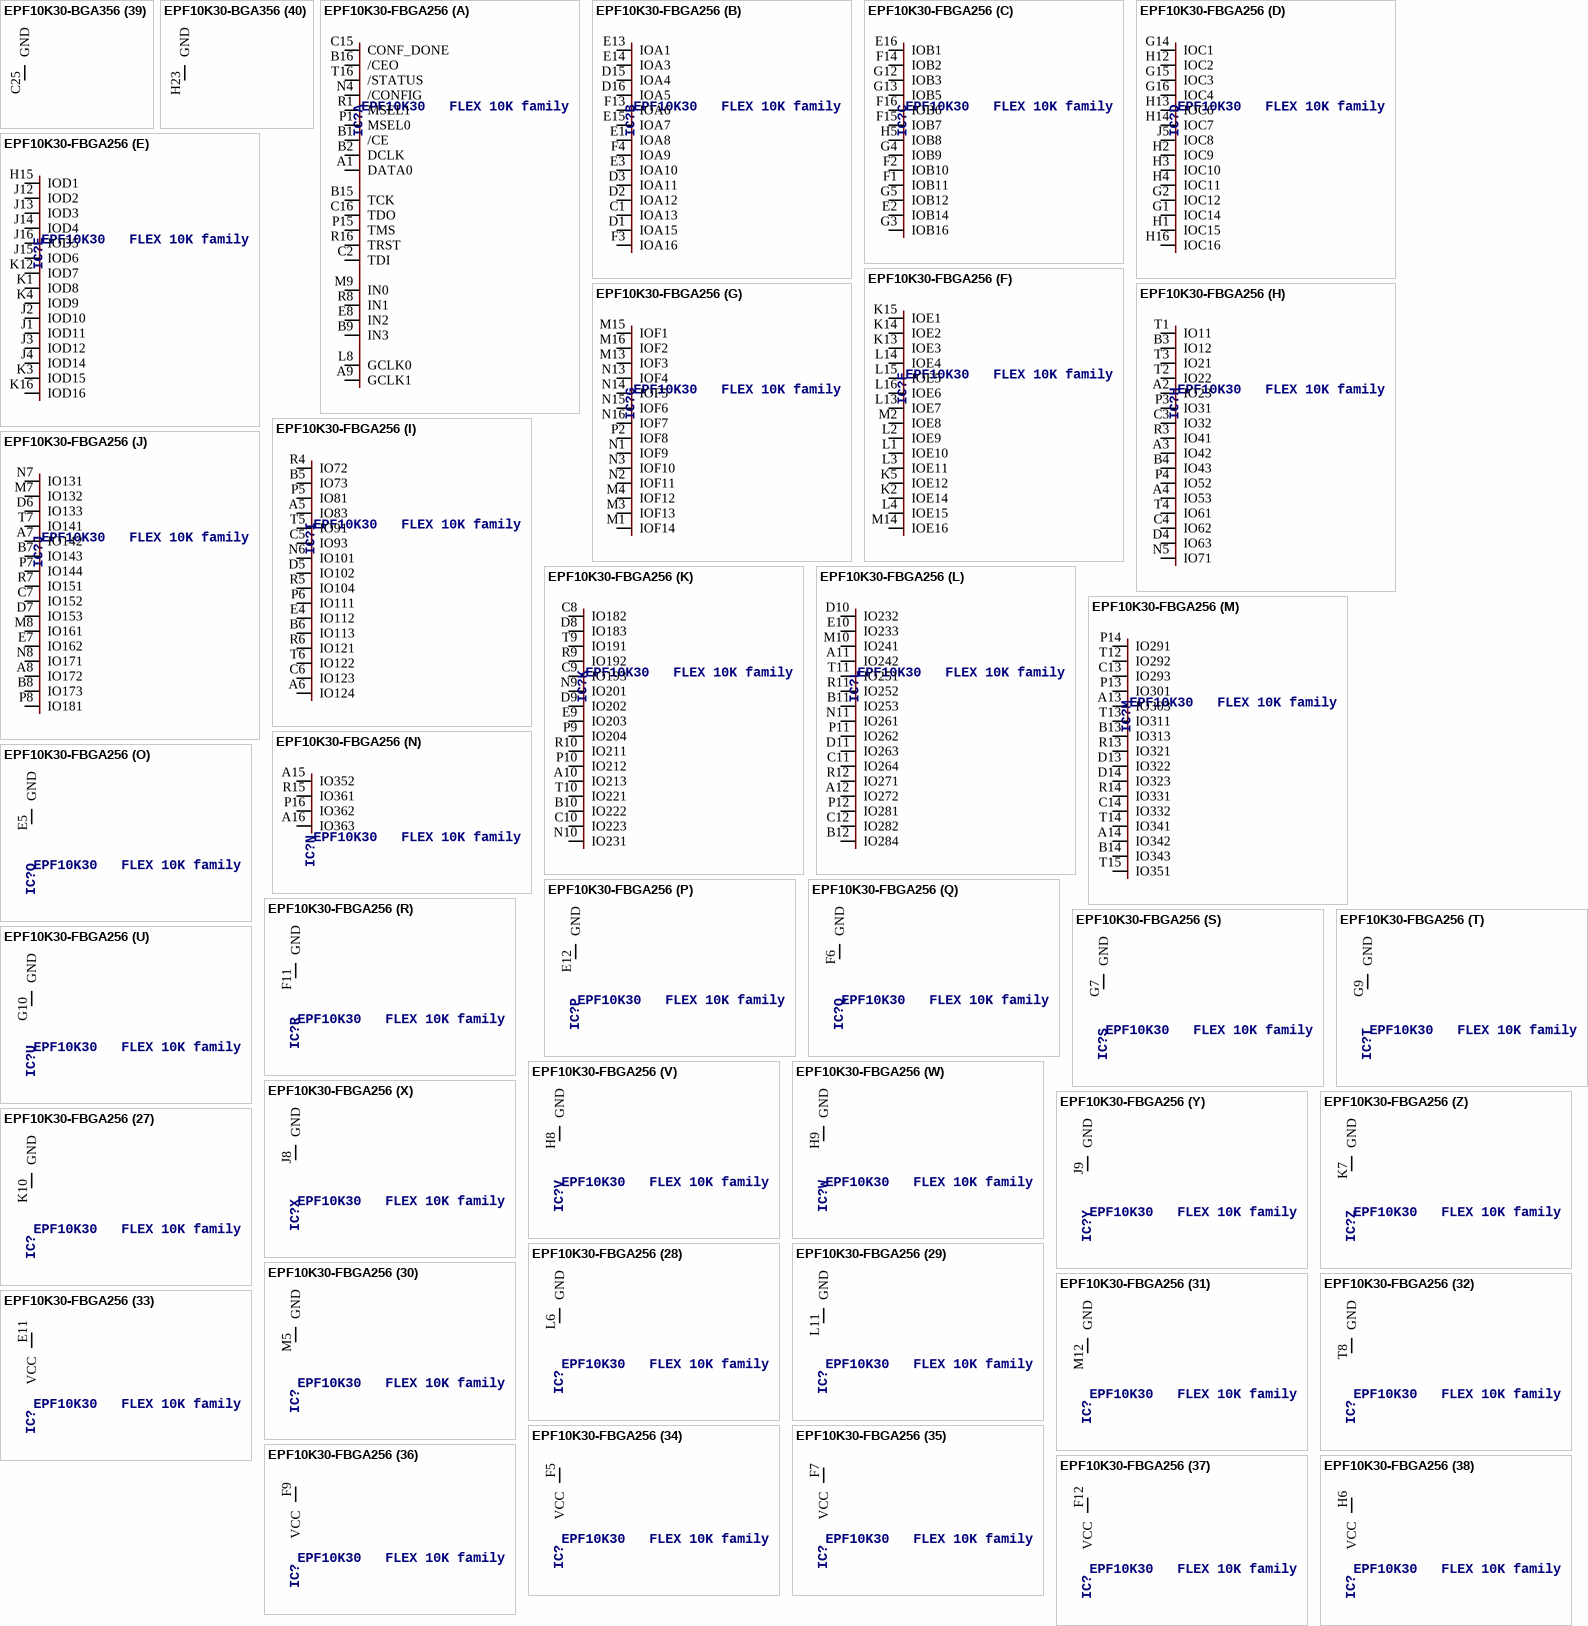
[diagram p6: symbols EPF10K30-BGA356 to EPF10K30-FBGA256]

## EPF10K30-BGA356
designator IC?, comment EPF10K30   FLEX 10K family
MPN: EPF10K30ABC356-2; OC_FARNELL: unknown; OC_NEWARK: 51R8936
footprint BGA356
part A pins: A13 IN1, A14 GCLK0, AC2 /CE, AC3 TDI, AC5 DCLK, AC22 /CEO, AC23 TDO, AC24 CONF_DONE, AD3 DATA0, AD25 TCK, AE13 IN2, AF13 GCLK1, AF14 IN3, B14 IN0, D2 /CONFIG, D3 MSEL1, D4 MSEL0, D22 TMS, D23 TRST, D24 /STATUS
part B pins: AA5 IOA11, AA22 IOA2, AA23 IOA3, AA24 IOA5, AB5 IOA12, AB22 IOA1, AC4 IOA13, AD1 IOA15, V5 IOA8, W4 IOA16, W5 IOA9, W23 IOA6, W24 IOA7, W25 IOA14, Y5 IOA10, Y22 IOA4
part C pins: T2 IOB8, T3 IOB16, T4 IOB9, T5 IOB10, T22 IOB15, U1 IOB11, U2 IOB12, U3 IOB13, U4 IOB14, U23 IOB6, U24 IOB7, V22 IOB1, V23 IOB2, V24 IOB4, V25 IOB5, W26 IOB3
part D pins: P1 IOC10, P3 IOC9, P4 IOC8, P5 IOC15, P22 IOC6, P23 IOC7, P25 IOC16, R2 IOC11, R3 IOC14, R4 IOC12, R5 IOC13, R22 IOC2, R23 IOC3, R25 IOC5, T24 IOC4, U22 IOC1
part E pins: M2 IOD10, M3 IOD9, M4 IOD8, M5 IOD15, M22 IOD16, M24 IOD7, M25 IOD6, N2 IOD11, N3 IOD14, N4 IOD12, N5 IOD13, N22 IOD3, N23 IOD4, N24 IOD5, N25 IOD2, P26 IOD1
part F pins: K2 IOE12, K3 IOE15, K4 IOE8, K22 IOE7, K23 IOE16, K26 IOE6, L1 IOE14, L2 IOE13, L3 IOE9, L4 IOE10, L5 IOE11, L22 IOE3, L23 IOE4, L24 IOE2, L25 IOE5, L26 IOE1
part G pins: AD4 IO12, AD5 IO23, AD6 IO43, AE3 IO24, AE4 IO42, AF2 IO32, B2 IO34, B3 IO31, C3 IO14, C4 IO11, C5 IO21, C6 IO41, G2 IO22, G4 IO44, Y3 IO33, Y4 IO13
part H pins: A3 IO51, A4 IO71, AA2 IO54, AA3 IO74, AD7 IO62, AD8 IO63, AD9 IO83, AE5 IO53, AE6 IO82, AF4 IO73, B5 IO52, B6 IO72, C7 IO64, C8 IO81, F5 IO61, G3 IO84
part I pins: A5 IO92, A6 IO121, AA4 IO94, AB2 IO112, AD10 IO102, AE8 IO93, AE9 IO113, AE10 IO123, AF5 IO103, AF6 IO124, B7 IO101, B8 IO91, B9 IO111, C10 IO114, F2 IO104, F3 IO122
part J pins: A8 IO141, A9 IO154, AB3 IO134, AB4 IO152, AD11 IO133, AD12 IO162, AE11 IO153, AF8 IO142, AF9 IO143, AF10 IO164, B10 IO131, B11 IO151, C11 IO132, C12 IO161, E4 IO163, E5 IO144
part K pins: A11 IO174, A12 IO181, A15 IO192, A16 IO201, AB25 IO194, AC1 IO172, AD13 IO183, AE12 IO173, AE14 IO193, AE15 IO203, AF12 IO182, AF15 IO202, B12 IO171, B15 IO191, E3 IO184, E24 IO204
part L pins: A17 IO212, A18 IO221, A19 IO241, AB23 IO232, AB24 IO214, AD15 IO213, AD16 IO242, AE16 IO223, AE17 IO243, AF17 IO222, AF18 IO233, B16 IO211, B17 IO234, C16 IO231, E25 IO224, E26 IO244
part M pins: A21 IO261, A22 IO271, AA25 IO272, AB26 IO254, AD17 IO263, AE18 IO264, AE19 IO282, AF20 IO253, AF21 IO273, AF22 IO284, B18 IO252, B19 IO274, C17 IO251, C18 IO281, F24 IO283, F25 IO262
part N pins: A24 IO291, A25 IO311, AA26 IO294, AD19 IO313, AE20 IO302, AE21 IO303, AE22 IO323, AF23 IO293, AF24 IO322, B20 IO292, B21 IO312, C19 IO304, C20 IO321, F23 IO301, F26 IO324, Y26 IO314
part O pins: AD21 IO342, AD22 IO364, AD23 IO352, AD24 IO363, AE23 IO332, AE24 IO343, B23 IO334, B24 IO341, C21 IO331, C22 IO351, C23 IO353, C24 IO361, G24 IO362, G25 IO344, Y24 IO333, Y25 IO354
part P pins: E22 IOF16, E23 IOF7, F22 IOF6, G22 IOF5, H2 IOF10, H3 IOF9, H4 IOF15, H5 IOF8, J2 IOF14, J3 IOF13, J4 IOF12, J5 IOF11, J22 IOF1, J23 IOF3, J24 IOF4, K24 IOF2
part Q pins: AD2 GND (power)
part R pins: AD14 GND (power)
part S pins: AD20 GND (power)
part T pins: AE1 GND (power)
part U pins: AE2 GND (power)
part V pins: AE7 GND (power)
part W pins: AE25 GND (power)
part X pins: AE26 GND (power)
part Y pins: AF11 GND (power)
part Z pins: AF19 GND (power)
part 27 pins: B25 GND (power)
part 28 pins: B22 GND (power)
part 29 pins: B13 GND (power)
part 30 pins: B1 GND (power)
part 31 pins: A20 GND (power)
part 32 pins: A10 GND (power)
part 33 pins: A2 GND (power)
part 34 pins: AF25 GND (power)
part 35 pins: B26 GND (power)
part 36 pins: C2 GND (power)
part 37 pins: C9 GND (power)
part 38 pins: C13 GND (power)
part 39 pins: C25 GND (power)
part 40 pins: H23 GND (power)
part 41 pins: J26 GND (power)
part 42 pins: K1 GND (power)
part 43 pins: M1 GND (power)
part 44 pins: N26 GND (power)
part 45 pins: R1 GND (power)
part 46 pins: R26 GND (power)
part 47 pins: T1 GND (power)
part 48 pins: U26 GND (power)
part 49 pins: W1 GND (power)
part 50 pins: AC26 NC
part 51 pins: C1 NC
part 52 pins: D1 NC
part 53 pins: D26 NC
part 54 pins: E1 NC
part 55 pins: E2 NC
part 56 pins: G1 NC
part 57 pins: G5 NC
part 58 pins: G23 NC
part 59 pins: G26 NC
part 60 pins: H1 NC
part 61 pins: H25 NC
part 62 pins: H26 NC
part 63 pins: J25 NC
part 64 pins: K25 NC
part 65 pins: P24 NC
part 66 pins: R24 NC
part 67 pins: T23 NC
part 68 pins: U25 NC
part 69 pins: V1 NC
part 70 pins: V3 NC
part 71 pins: V4 NC
part 72 pins: V26 NC
part 73 pins: W2 NC
part 74 pins: W3 NC
part 75 pins: Y1 NC
part 76 pins: Y2 NC
part 77 pins: Y23 NC
part 78 pins: AA1 VCC (power)
part 79 pins: AD26 VCC (power)
part 80 pins: AF1 VCC (power)
part 81 pins: AF26 VCC (power)
part 82 pins: A1 VCC (power)
part 83 pins: A26 VCC (power)
part 84 pins: C14 VCC (power)
part 85 pins: C26 VCC (power)
part 86 pins: D5 VCC (power)
part 87 pins: F1 VCC (power)
part 88 pins: H22 VCC (power)
part 89 pins: J1 VCC (power)
part 90 pins: M26 VCC (power)
part 91 pins: N1 VCC (power)
part 92 pins: T26 VCC (power)
part 93 pins: U5 VCC (power)
part 94 pins: AB1 VCCIO (power)
part 95 pins: AC25 VCCIO (power)
part 96 pins: AD18 VCCIO (power)
part 97 pins: AF3 VCCIO (power)
part 98 pins: AF7 VCCIO (power)
part 99 pins: AF16 VCCIO (power)
part 100 pins: A7 VCCIO (power)
part 101 pins: A23 VCCIO (power)
part 102 pins: B4 VCCIO (power)
part 103 pins: C15 VCCIO (power)
part 104 pins: D25 VCCIO (power)
part 105 pins: F4 VCCIO (power)
part 106 pins: H24 VCCIO (power)
part 107 pins: K5 VCCIO (power)
part 108 pins: M23 VCCIO (power)
part 109 pins: P2 VCCIO (power)
part 110 pins: T25 VCCIO (power)
part 111 pins: V2 VCCIO (power)
part 112 pins: W22 VCCIO (power)

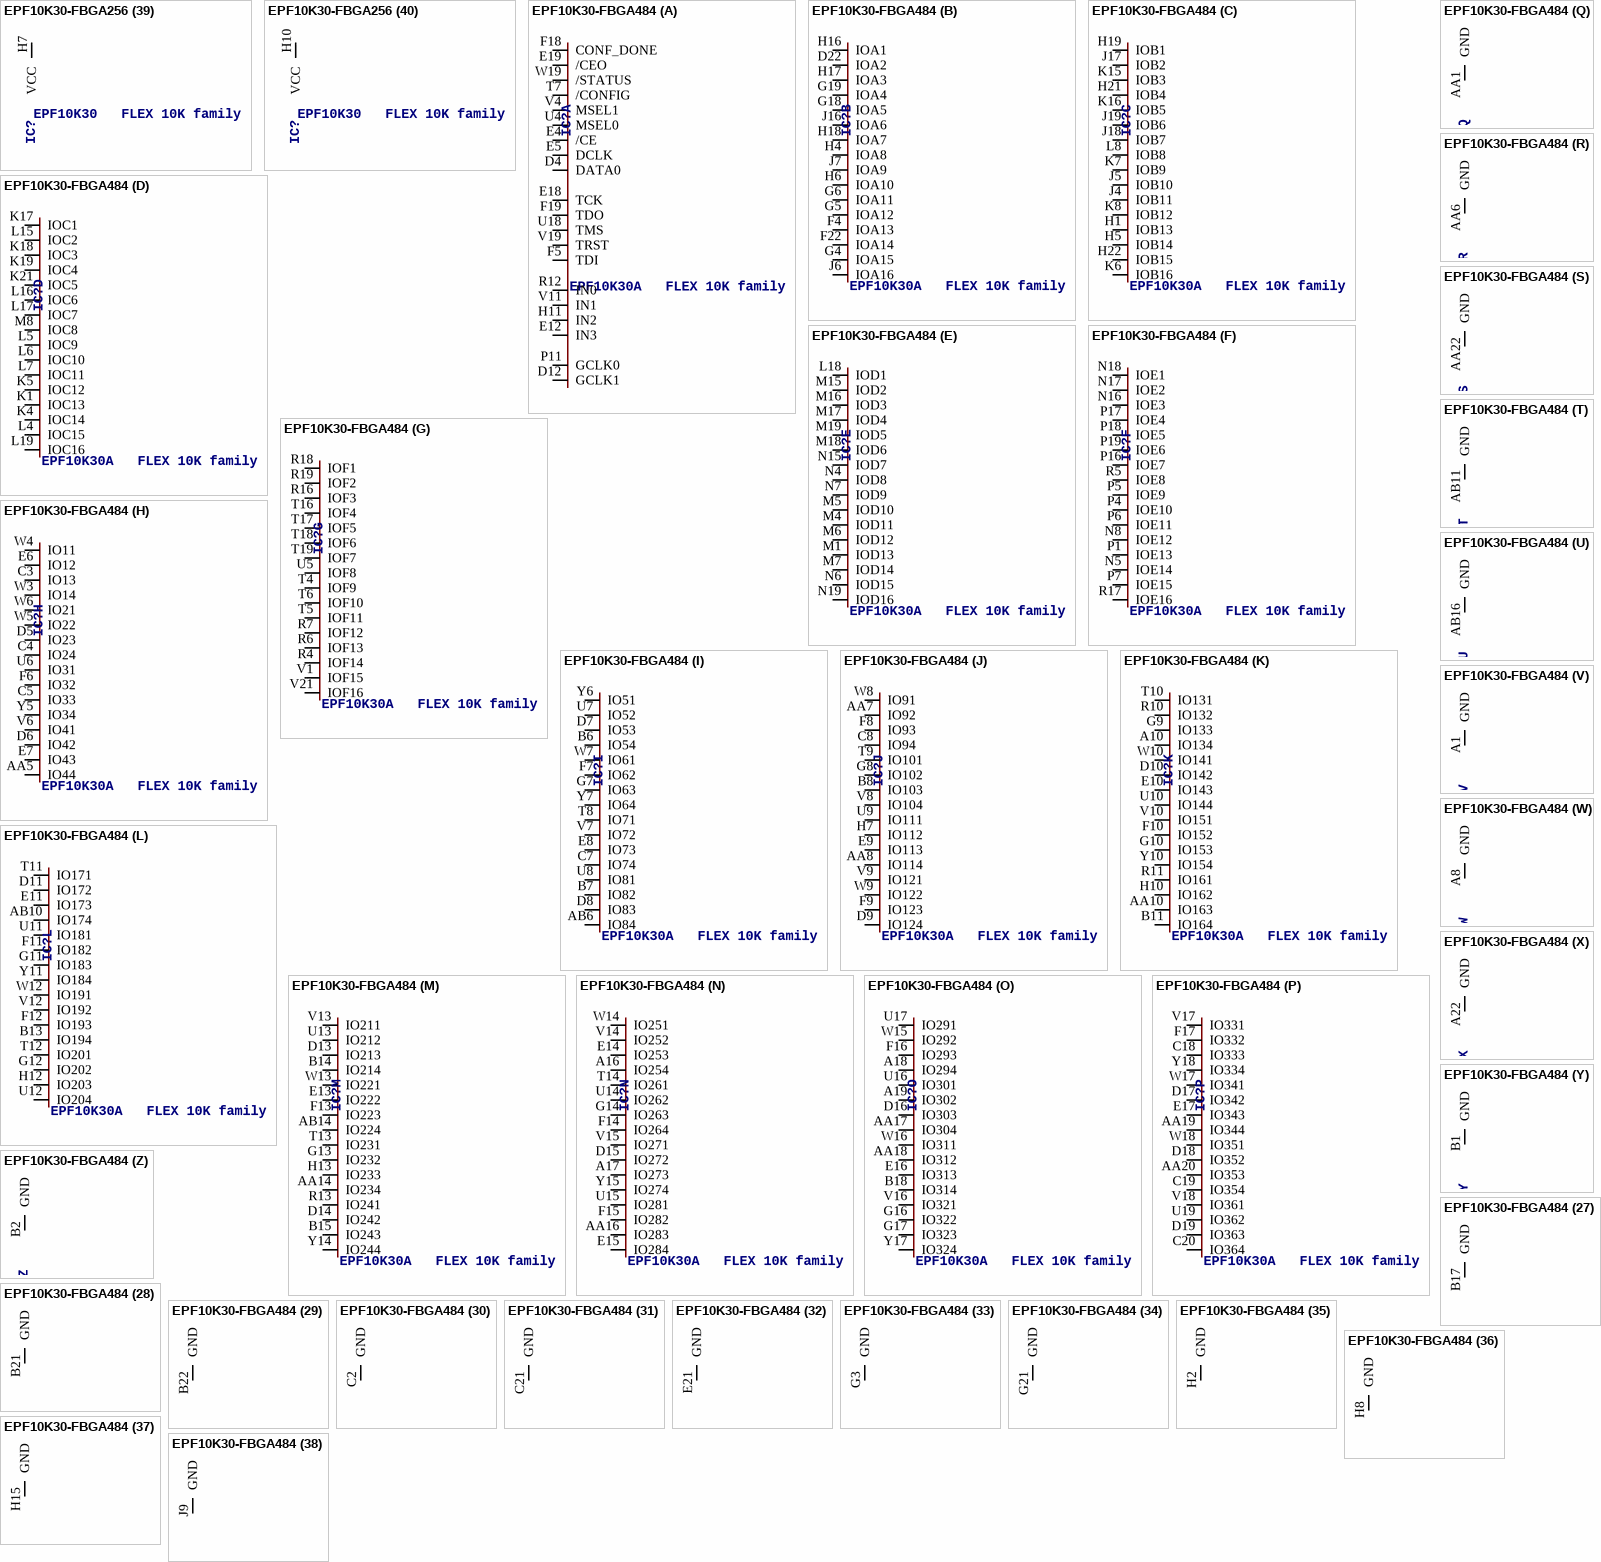
[diagram p7: symbols EPF10K30-FBGA256 to EPF10K30-FBGA484]

## EPF10K30-FBGA256
designator IC?, comment EPF10K30   FLEX 10K family
MPN: EPF10K30EFC256-3N; OC_FARNELL: 1549394; OC_NEWARK: 51R8977
footprint FBGA256
part A pins: A1 DATA0, A9 GCLK1, B1 /CE, B2 DCLK, B9 IN3, B15 TCK, B16 /CEO, C2 TDI, C15 CONF_DONE, C16 TDO, E8 IN2, L8 GCLK0, M9 IN0, N4 /CONFIG, P1 MSEL0, P15 TMS, R1 MSEL1, R8 IN1, R16 TRST, T16 /STATUS
part B pins: C1 IOA13, D1 IOA15, D2 IOA12, D3 IOA11, D15 IOA4, D16 IOA5, E1 IOA8, E3 IOA10, E13 IOA1, E14 IOA3, E15 IOA7, F3 IOA16, F4 IOA9, F13 IOA6
part C pins: E2 IOB14, E16 IOB1, F1 IOB11, F2 IOB10, F14 IOB2, F15 IOB7, F16 IOB6, G3 IOB16, G4 IOB9, G5 IOB12, G12 IOB3, G13 IOB5, H5 IOB8
part D pins: G1 IOC14, G2 IOC12, G14 IOC1, G15 IOC3, G16 IOC4, H1 IOC15, H2 IOC9, H3 IOC10, H4 IOC11, H12 IOC2, H13 IOC6, H14 IOC7, H16 IOC16, J5 IOC8
part E pins: H15 IOD1, J1 IOD11, J2 IOD10, J3 IOD12, J4 IOD14, J12 IOD2, J13 IOD3, J14 IOD4, J15 IOD6, J16 IOD5, K1 IOD8, K3 IOD15, K4 IOD9, K12 IOD7, K16 IOD16
part F pins: K2 IOE14, K5 IOE12, K13 IOE3, K14 IOE2, K15 IOE1, L1 IOE10, L2 IOE9, L3 IOE11, L4 IOE15, L13 IOE7, L14 IOE4, L15 IOE5, L16 IOE6, M2 IOE8, M14 IOE16
part G pins: M1 IOF14, M3 IOF13, M4 IOF12, M13 IOF3, M15 IOF1, M16 IOF2, N1 IOF9, N2 IOF11, N3 IOF10, N13 IOF4, N14 IOF5, N15 IOF6, N16 IOF7, P2 IOF8
part H pins: A2 IO23, A3 IO42, A4 IO53, B3 IO12, B4 IO43, C3 IO32, C4 IO62, D4 IO63, N5 IO71, P3 IO31, P4 IO52, R3 IO41, T1 IO11, T2 IO22, T3 IO21, T4 IO61
part I pins: A5 IO83, A6 IO124, B5 IO73, B6 IO113, C5 IO93, C6 IO123, D5 IO102, E4 IO112, N6 IO101, P5 IO81, P6 IO111, R4 IO72, R5 IO104, R6 IO121, T5 IO91, T6 IO122
part J pins: A7 IO142, A8 IO172, B7 IO143, B8 IO173, C7 IO152, D6 IO133, D7 IO153, E7 IO162, M7 IO132, M8 IO161, N7 IO131, N8 IO171, P7 IO144, P8 IO181, R7 IO151, T7 IO141
part K pins: A10 IO213, B10 IO222, C8 IO182, C9 IO193, C10 IO223, D8 IO183, D9 IO202, E9 IO203, N9 IO201, N10 IO231, P9 IO204, P10 IO212, R9 IO192, R10 IO211, T9 IO191, T10 IO221
part L pins: A11 IO242, A12 IO272, B11 IO253, B12 IO284, C11 IO264, C12 IO282, D10 IO232, D11 IO263, E10 IO233, M10 IO241, N11 IO261, P11 IO262, P12 IO281, R11 IO252, R12 IO271, T11 IO251
part M pins: A13 IO303, A14 IO342, B13 IO313, B14 IO343, C13 IO293, C14 IO332, D13 IO322, D14 IO323, P13 IO301, P14 IO291, R13 IO321, R14 IO331, T12 IO292, T13 IO311, T14 IO341, T15 IO351
part N pins: A15 IO352, A16 IO363, P16 IO362, R15 IO361
part O pins: E5 GND (power)
part P pins: E12 GND (power)
part Q pins: F6 GND (power)
part R pins: F11 GND (power)
part S pins: G7 GND (power)
part T pins: G9 GND (power)
part U pins: G10 GND (power)
part V pins: H8 GND (power)
part W pins: H9 GND (power)
part X pins: J8 GND (power)
part Y pins: J9 GND (power)
part Z pins: K7 GND (power)
part 27 pins: K10 GND (power)
part 28 pins: L6 GND (power)
part 29 pins: L11 GND (power)
part 30 pins: M5 GND (power)
part 31 pins: M12 GND (power)
part 32 pins: T8 GND (power)
part 33 pins: E11 VCC (power)
part 34 pins: F5 VCC (power)
part 35 pins: F7 VCC (power)
part 36 pins: F9 VCC (power)
part 37 pins: F12 VCC (power)
part 38 pins: H6 VCC (power)
part 39 pins: H7 VCC (power)
part 40 pins: H10 VCC (power)
part 41 pins: J7 VCC (power)
part 42 pins: J10 VCC (power)
part 43 pins: J11 VCC (power)
part 44 pins: K9 VCC (power)
part 45 pins: L5 VCC (power)
part 46 pins: L7 VCC (power)
part 47 pins: L9 VCC (power)
part 48 pins: L12 VCC (power)
part 49 pins: M11 VCC (power)
part 50 pins: R2 VCC (power)
part 51 pins: D12 VCCIO (power)
part 52 pins: E6 VCCIO (power)
part 53 pins: F8 VCCIO (power)
part 54 pins: F10 VCCIO (power)
part 55 pins: G6 VCCIO (power)
part 56 pins: G8 VCCIO (power)
part 57 pins: G11 VCCIO (power)
part 58 pins: H11 VCCIO (power)
part 59 pins: J6 VCCIO (power)
part 60 pins: K6 VCCIO (power)
part 61 pins: K8 VCCIO (power)
part 62 pins: K11 VCCIO (power)
part 63 pins: L10 VCCIO (power)
part 64 pins: M6 VCCIO (power)
part 65 pins: N12 VCCIO (power)

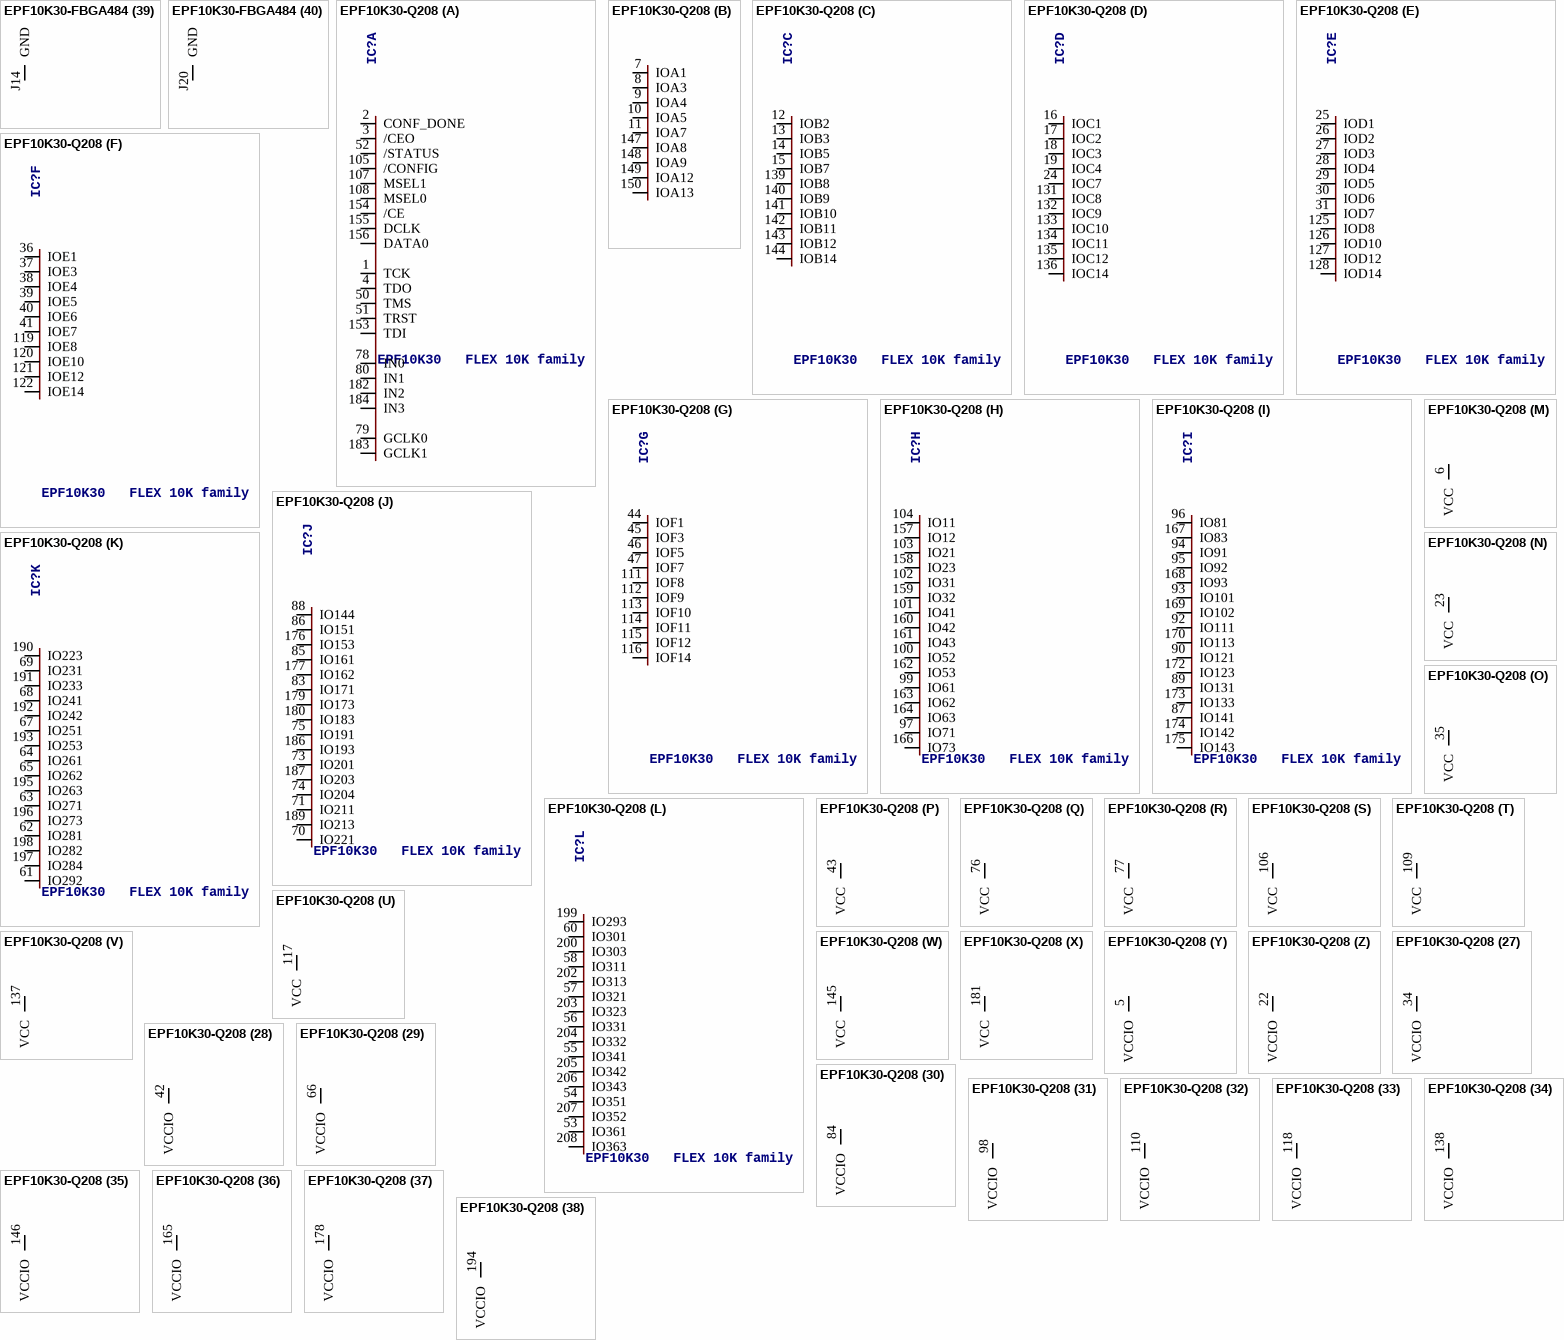
[diagram p8: symbols EPF10K30-FBGA484 to EPF10K30-Q208]

## EPF10K30-FBGA484
designator IC?, comment EPF10K30A   FLEX 10K family
MPN: EPF10K30AFC484-1; OC_FARNELL: unknown; OC_NEWARK: 51R8942
footprint FBGA484
part A pins: D4 DATA0, D12 GCLK1, E4 /CE, E5 DCLK, E12 IN3, E18 TCK, E19 /CEO, F5 TDI, F18 CONF_DONE, F19 TDO, H11 IN2, P11 GCLK0, R12 IN0, T7 /CONFIG, U4 MSEL0, U18 TMS, V4 MSEL1, V11 IN1, V19 TRST, W19 /STATUS
part B pins: D22 IOA2, F4 IOA13, F22 IOA14, G4 IOA15, G5 IOA12, G6 IOA11, G18 IOA5, G19 IOA4, H4 IOA8, H6 IOA10, H16 IOA1, H17 IOA3, H18 IOA7, J6 IOA16, J7 IOA9, J16 IOA6
part C pins: H1 IOB13, H5 IOB14, H19 IOB1, H21 IOB4, H22 IOB15, J4 IOB11, J5 IOB10, J17 IOB2, J18 IOB7, J19 IOB6, K6 IOB16, K7 IOB9, K8 IOB12, K15 IOB3, K16 IOB5, L8 IOB8
part D pins: K1 IOC13, K4 IOC14, K5 IOC12, K17 IOC1, K18 IOC3, K19 IOC4, K21 IOC5, L4 IOC15, L5 IOC9, L6 IOC10, L7 IOC11, L15 IOC2, L16 IOC6, L17 IOC7, L19 IOC16, M8 IOC8
part E pins: L18 IOD1, M1 IOD13, M4 IOD11, M5 IOD10, M6 IOD12, M7 IOD14, M15 IOD2, M16 IOD3, M17 IOD4, M18 IOD6, M19 IOD5, N4 IOD8, N6 IOD15, N7 IOD9, N15 IOD7, N19 IOD16
part F pins: N5 IOE14, N8 IOE12, N16 IOE3, N17 IOE2, N18 IOE1, P1 IOE13, P4 IOE10, P5 IOE9, P6 IOE11, P7 IOE15, P16 IOE7, P17 IOE4, P18 IOE5, P19 IOE6, R5 IOE8, R17 IOE16
part G pins: R4 IOF14, R6 IOF13, R7 IOF12, R16 IOF3, R18 IOF1, R19 IOF2, T4 IOF9, T5 IOF11, T6 IOF10, T16 IOF4, T17 IOF5, T18 IOF6, T19 IOF7, U5 IOF8, V1 IOF15, V21 IOF16
part H pins: AA5 IO44, C3 IO13, C4 IO24, C5 IO33, D5 IO23, D6 IO42, E6 IO12, E7 IO43, F6 IO32, U6 IO31, V6 IO41, W3 IO14, W4 IO11, W5 IO22, W6 IO21, Y5 IO34
part I pins: AB6 IO84, B6 IO54, B7 IO82, C7 IO74, D7 IO53, D8 IO83, E8 IO73, F7 IO62, G7 IO63, T8 IO71, U7 IO52, U8 IO81, V7 IO72, W7 IO61, Y6 IO51, Y7 IO64
part J pins: AA7 IO92, AA8 IO114, B8 IO103, C8 IO94, D9 IO124, E9 IO113, F8 IO93, F9 IO123, G8 IO102, H7 IO112, T9 IO101, U9 IO111, V8 IO104, V9 IO121, W8 IO91, W9 IO122
part K pins: A10 IO134, AA10 IO163, B11 IO164, D10 IO142, E10 IO143, F10 IO152, G9 IO133, G10 IO153, H10 IO162, R10 IO132, R11 IO161, T10 IO131, U10 IO144, V10 IO151, W10 IO141, Y10 IO154
part L pins: AB10 IO174, B13 IO194, D11 IO172, E11 IO173, F11 IO182, F12 IO193, G11 IO183, G12 IO202, H12 IO203, T11 IO171, T12 IO201, U11 IO181, U12 IO204, V12 IO192, W12 IO191, Y11 IO184
part M pins: AA14 IO234, AB14 IO224, B14 IO214, B15 IO243, D13 IO213, D14 IO242, E13 IO222, F13 IO223, G13 IO232, H13 IO233, R13 IO241, T13 IO231, U13 IO212, V13 IO211, W13 IO221, Y14 IO244
part N pins: A16 IO254, A17 IO273, AA16 IO283, D15 IO272, E14 IO253, E15 IO284, F14 IO264, F15 IO282, G14 IO263, T14 IO261, U14 IO262, U15 IO281, V14 IO252, V15 IO271, W14 IO251, Y15 IO274
part O pins: A18 IO294, A19 IO302, AA17 IO304, AA18 IO312, B18 IO314, D16 IO303, E16 IO313, F16 IO293, G16 IO322, G17 IO323, U16 IO301, U17 IO291, V16 IO321, W15 IO292, W16 IO311, Y17 IO324
part P pins: AA19 IO344, AA20 IO353, C18 IO333, C19 IO354, C20 IO364, D17 IO342, D18 IO352, D19 IO363, E17 IO343, F17 IO332, U19 IO362, V17 IO331, V18 IO361, W17 IO341, W18 IO351, Y18 IO334
part Q pins: AA1 GND (power)
part R pins: AA6 GND (power)
part S pins: AA22 GND (power)
part T pins: AB11 GND (power)
part U pins: AB16 GND (power)
part V pins: A1 GND (power)
part W pins: A8 GND (power)
part X pins: A22 GND (power)
part Y pins: B1 GND (power)
part Z pins: B2 GND (power)
part 27 pins: B17 GND (power)
part 28 pins: B21 GND (power)
part 29 pins: B22 GND (power)
part 30 pins: C2 GND (power)
part 31 pins: C21 GND (power)
part 32 pins: E21 GND (power)
part 33 pins: G3 GND (power)
part 34 pins: G21 GND (power)
part 35 pins: H2 GND (power)
part 36 pins: H8 GND (power)
part 37 pins: H15 GND (power)
part 38 pins: J9 GND (power)
part 39 pins: J14 GND (power)
part 40 pins: J20 GND (power)
part 41 pins: K3 GND (power)
part 42 pins: K10 GND (power)
part 43 pins: K12 GND (power)
part 44 pins: K13 GND (power)
part 45 pins: L11 GND (power)
part 46 pins: L12 GND (power)
part 47 pins: M11 GND (power)
part 48 pins: M12 GND (power)
part 49 pins: M20 GND (power)
part 50 pins: N10 GND (power)
part 51 pins: N13 GND (power)
part 52 pins: P9 GND (power)
part 53 pins: P14 GND (power)
part 54 pins: R8 GND (power)
part 55 pins: R15 GND (power)
part 56 pins: R22 GND (power)
part 57 pins: T1 GND (power)
part 58 pins: V3 GND (power)
part 59 pins: W11 GND (power)
part 60 pins: W20 GND (power)
part 61 pins: Y1 GND (power)
part 62 pins: Y2 GND (power)
part 63 pins: Y3 GND (power)
part 64 pins: Y21 GND (power)
part 65 pins: Y22 GND (power)
part 66 pins: AA2 NC
part 67 pins: AA3 NC
part 68 pins: AA4 NC
part 69 pins: AA9 NC
part 70 pins: AA11 NC
part 71 pins: AA13 NC
part 72 pins: AA15 NC
part 73 pins: AA21 NC
part 74 pins: AB1 NC
part 75 pins: AB2 NC
part 76 pins: AB3 NC
part 77 pins: AB4 NC
part 78 pins: AB5 NC
part 79 pins: AB7 NC
part 80 pins: AB8 NC
part 81 pins: AB9 NC
part 82 pins: AB12 NC
part 83 pins: AB15 NC
part 84 pins: AB17 NC
part 85 pins: AB18 NC
part 86 pins: AB19 NC
part 87 pins: AB20 NC
part 88 pins: AB21 NC
part 89 pins: AB22 NC
part 90 pins: A2 NC
part 91 pins: A3 NC
part 92 pins: A4 NC
part 93 pins: A5 NC
part 94 pins: A7 NC
part 95 pins: A9 NC
part 96 pins: A11 NC
part 97 pins: A12 NC
part 98 pins: A14 NC
part 99 pins: A15 NC
part 100 pins: A20 NC
part 101 pins: A21 NC
part 102 pins: B3 NC
part 103 pins: B4 NC
part 104 pins: B9 NC
part 105 pins: B10 NC
part 106 pins: B12 NC
part 107 pins: B16 NC
part 108 pins: B19 NC
part 109 pins: B20 NC
part 110 pins: C1 NC
part 111 pins: C6 NC
part 112 pins: C9 NC
part 113 pins: C10 NC
part 114 pins: C12 NC
part 115 pins: C13 NC
part 116 pins: C14 NC
part 117 pins: C16 NC
part 118 pins: C17 NC
part 119 pins: C22 NC
part 120 pins: D1 NC
part 121 pins: D2 NC
part 122 pins: D3 NC
part 123 pins: D20 NC
part 124 pins: D21 NC
part 125 pins: E2 NC
part 126 pins: E3 NC
part 127 pins: E20 NC
part 128 pins: E22 NC
part 129 pins: F1 NC
part 130 pins: F2 NC
part 131 pins: F3 NC
part 132 pins: F20 NC
part 133 pins: F21 NC
part 134 pins: G2 NC
part 135 pins: G20 NC
part 136 pins: G22 NC
part 137 pins: H3 NC
part 138 pins: J1 NC
part 139 pins: J2 NC
part 140 pins: J3 NC
part 141 pins: J21 NC
part 142 pins: J22 NC
part 143 pins: K2 NC
part 144 pins: K22 NC
part 145 pins: L1 NC
part 146 pins: L2 NC
part 147 pins: L3 NC
part 148 pins: L20 NC
part 149 pins: L21 NC
part 150 pins: L22 NC
part 151 pins: M2 NC
part 152 pins: M3 NC
part 153 pins: M21 NC
part 154 pins: M22 NC
part 155 pins: N1 NC
part 156 pins: N2 NC
part 157 pins: N21 NC
part 158 pins: N22 NC
part 159 pins: P2 NC
part 160 pins: P3 NC
part 161 pins: P20 NC
part 162 pins: P21 NC
part 163 pins: P22 NC
part 164 pins: R2 NC
part 165 pins: R3 NC
part 166 pins: R20 NC
part 167 pins: R21 NC
part 168 pins: T2 NC
part 169 pins: T20 NC
part 170 pins: T21 NC
part 171 pins: U1 NC
part 172 pins: U2 NC
part 173 pins: U3 NC
part 174 pins: U20 NC
part 175 pins: U21 NC
part 176 pins: U22 NC
part 177 pins: V2 NC
part 178 pins: V20 NC
part 179 pins: W1 NC
part 180 pins: W2 NC
part 181 pins: W22 NC
part 182 pins: Y4 NC
part 183 pins: Y9 NC
part 184 pins: Y12 NC
part 185 pins: Y13 NC
part 186 pins: Y16 NC
part 187 pins: Y19 NC
part 188 pins: Y20 NC
part 189 pins: AA12 VCC (power)
part 190 pins: C11 VCC (power)
part 191 pins: C15 VCC (power)
part 192 pins: H14 VCC (power)
part 193 pins: J8 VCC (power)
part 194 pins: J10 VCC (power)
part 195 pins: J12 VCC (power)
part 196 pins: J15 VCC (power)
part 197 pins: L9 VCC (power)
part 198 pins: L10 VCC (power)
part 199 pins: L13 VCC (power)
part 200 pins: M10 VCC (power)
part 201 pins: M13 VCC (power)
part 202 pins: M14 VCC (power)
part 203 pins: N12 VCC (power)
part 204 pins: P8 VCC (power)
part 205 pins: P10 VCC (power)
part 206 pins: P12 VCC (power)
part 207 pins: P15 VCC (power)
part 208 pins: R14 VCC (power)
part 209 pins: V5 VCC (power)
part 210 pins: W21 VCC (power)
part 211 pins: Y8 VCC (power)
part 212 pins: AB13 VCCIO (power)
part 213 pins: A6 VCCIO (power)
part 214 pins: A13 VCCIO (power)
part 215 pins: B5 VCCIO (power)
part 216 pins: E1 VCCIO (power)
part 217 pins: G1 VCCIO (power)
part 218 pins: G15 VCCIO (power)
part 219 pins: H9 VCCIO (power)
part 220 pins: H20 VCCIO (power)
part 221 pins: J11 VCCIO (power)
part 222 pins: J13 VCCIO (power)
part 223 pins: K9 VCCIO (power)
part 224 pins: K11 VCCIO (power)
part 225 pins: K14 VCCIO (power)
part 226 pins: K20 VCCIO (power)
part 227 pins: L14 VCCIO (power)
part 228 pins: M9 VCCIO (power)
part 229 pins: N3 VCCIO (power)
part 230 pins: N9 VCCIO (power)
part 231 pins: N11 VCCIO (power)
part 232 pins: N14 VCCIO (power)
part 233 pins: N20 VCCIO (power)
part 234 pins: P13 VCCIO (power)
part 235 pins: R1 VCCIO (power)
part 236 pins: R9 VCCIO (power)
part 237 pins: T3 VCCIO (power)
part 238 pins: T15 VCCIO (power)
part 239 pins: T22 VCCIO (power)
part 240 pins: V22 VCCIO (power)

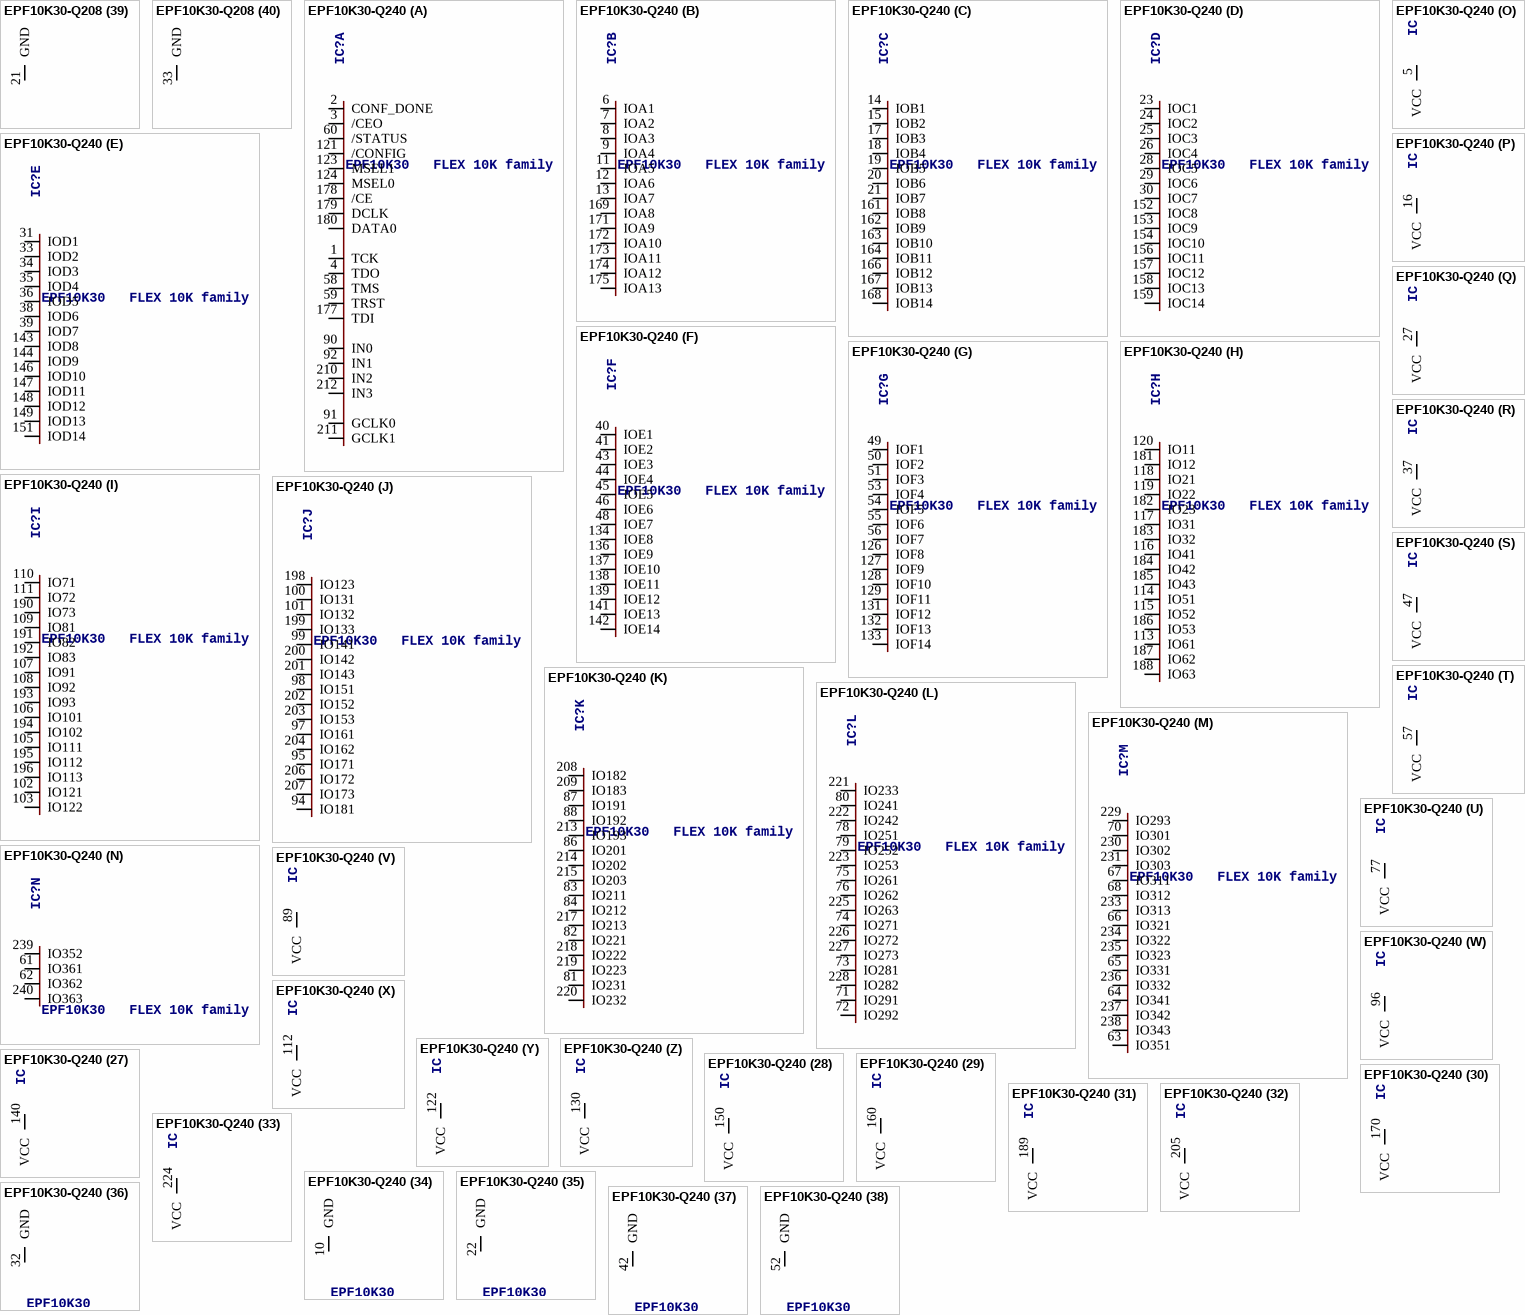
[diagram p9: symbols EPF10K30-Q208 to EPF10K30-Q240]

## EPF10K30-Q208
designator IC?, comment EPF10K30   FLEX 10K family
MPN: EPF10K30EQC208-2N; OC_FARNELL: 1549382; OC_NEWARK: 51R8987
footprint PQFP208
part A pins: 1 TCK, 2 CONF_DONE, 3 /CEO, 4 TDO, 50 TMS, 51 TRST, 52 /STATUS, 78 IN0, 79 GCLK0, 80 IN1, 105 /CONFIG, 107 MSEL1, 108 MSEL0, 153 TDI, 154 /CE, 155 DCLK, 156 DATA0, 182 IN2, 183 GCLK1, 184 IN3
part B pins: 7 IOA1, 8 IOA3, 9 IOA4, 10 IOA5, 11 IOA7, 147 IOA8, 148 IOA9, 149 IOA12, 150 IOA13
part C pins: 12 IOB2, 13 IOB3, 14 IOB5, 15 IOB7, 139 IOB8, 140 IOB9, 141 IOB10, 142 IOB11, 143 IOB12, 144 IOB14
part D pins: 16 IOC1, 17 IOC2, 18 IOC3, 19 IOC4, 24 IOC7, 131 IOC8, 132 IOC9, 133 IOC10, 134 IOC11, 135 IOC12, 136 IOC14
part E pins: 25 IOD1, 26 IOD2, 27 IOD3, 28 IOD4, 29 IOD5, 30 IOD6, 31 IOD7, 125 IOD8, 126 IOD10, 127 IOD12, 128 IOD14
part F pins: 36 IOE1, 37 IOE3, 38 IOE4, 39 IOE5, 40 IOE6, 41 IOE7, 119 IOE8, 120 IOE10, 121 IOE12, 122 IOE14
part G pins: 44 IOF1, 45 IOF3, 46 IOF5, 47 IOF7, 111 IOF8, 112 IOF9, 113 IOF10, 114 IOF11, 115 IOF12, 116 IOF14
part H pins: 97 IO71, 99 IO61, 100 IO52, 101 IO41, 102 IO31, 103 IO21, 104 IO11, 157 IO12, 158 IO23, 159 IO32, 160 IO42, 161 IO43, 162 IO53, 163 IO62, 164 IO63, 166 IO73
part I pins: 87 IO141, 89 IO131, 90 IO121, 92 IO111, 93 IO101, 94 IO91, 95 IO92, 96 IO81, 167 IO83, 168 IO93, 169 IO102, 170 IO113, 172 IO123, 173 IO133, 174 IO142, 175 IO143
part J pins: 70 IO221, 71 IO211, 73 IO201, 74 IO204, 75 IO191, 83 IO171, 85 IO161, 86 IO151, 88 IO144, 176 IO153, 177 IO162, 179 IO173, 180 IO183, 186 IO193, 187 IO203, 189 IO213
part K pins: 61 IO292, 62 IO281, 63 IO271, 64 IO261, 65 IO262, 67 IO251, 68 IO241, 69 IO231, 190 IO223, 191 IO233, 192 IO242, 193 IO253, 195 IO263, 196 IO273, 197 IO284, 198 IO282
part L pins: 53 IO361, 54 IO351, 55 IO341, 56 IO331, 57 IO321, 58 IO311, 60 IO301, 199 IO293, 200 IO303, 202 IO313, 203 IO323, 204 IO332, 205 IO342, 206 IO343, 207 IO352, 208 IO363
part M pins: 6 VCC (power)
part N pins: 23 VCC (power)
part O pins: 35 VCC (power)
part P pins: 43 VCC (power)
part Q pins: 76 VCC (power)
part R pins: 77 VCC (power)
part S pins: 106 VCC (power)
part T pins: 109 VCC (power)
part U pins: 117 VCC (power)
part V pins: 137 VCC (power)
part W pins: 145 VCC (power)
part X pins: 181 VCC (power)
part Y pins: 5 VCCIO (power)
part Z pins: 22 VCCIO (power)
part 27 pins: 34 VCCIO (power)
part 28 pins: 42 VCCIO (power)
part 29 pins: 66 VCCIO (power)
part 30 pins: 84 VCCIO (power)
part 31 pins: 98 VCCIO (power)
part 32 pins: 110 VCCIO (power)
part 33 pins: 118 VCCIO (power)
part 34 pins: 138 VCCIO (power)
part 35 pins: 146 VCCIO (power)
part 36 pins: 165 VCCIO (power)
part 37 pins: 178 VCCIO (power)
part 38 pins: 194 VCCIO (power)
part 39 pins: 21 GND (power)
part 40 pins: 33 GND (power)
part 41 pins: 49 GND (power)
part 42 pins: 81 GND (power)
part 43 pins: 82 GND (power)
part 44 pins: 123 GND (power)
part 45 pins: 129 GND (power)
part 46 pins: 151 GND (power)
part 47 pins: 185 GND (power)
part 48 pins: 20 GNDIO (power)
part 49 pins: 32 GNDIO (power)
part 50 pins: 48 GNDIO (power)
part 51 pins: 59 GNDIO (power)
part 52 pins: 72 GNDIO (power)
part 53 pins: 91 GNDIO (power)
part 54 pins: 124 GNDIO (power)
part 55 pins: 130 GNDIO (power)
part 56 pins: 152 GNDIO (power)
part 57 pins: 171 GNDIO (power)
part 58 pins: 188 GNDIO (power)
part 59 pins: 201 GNDIO (power)

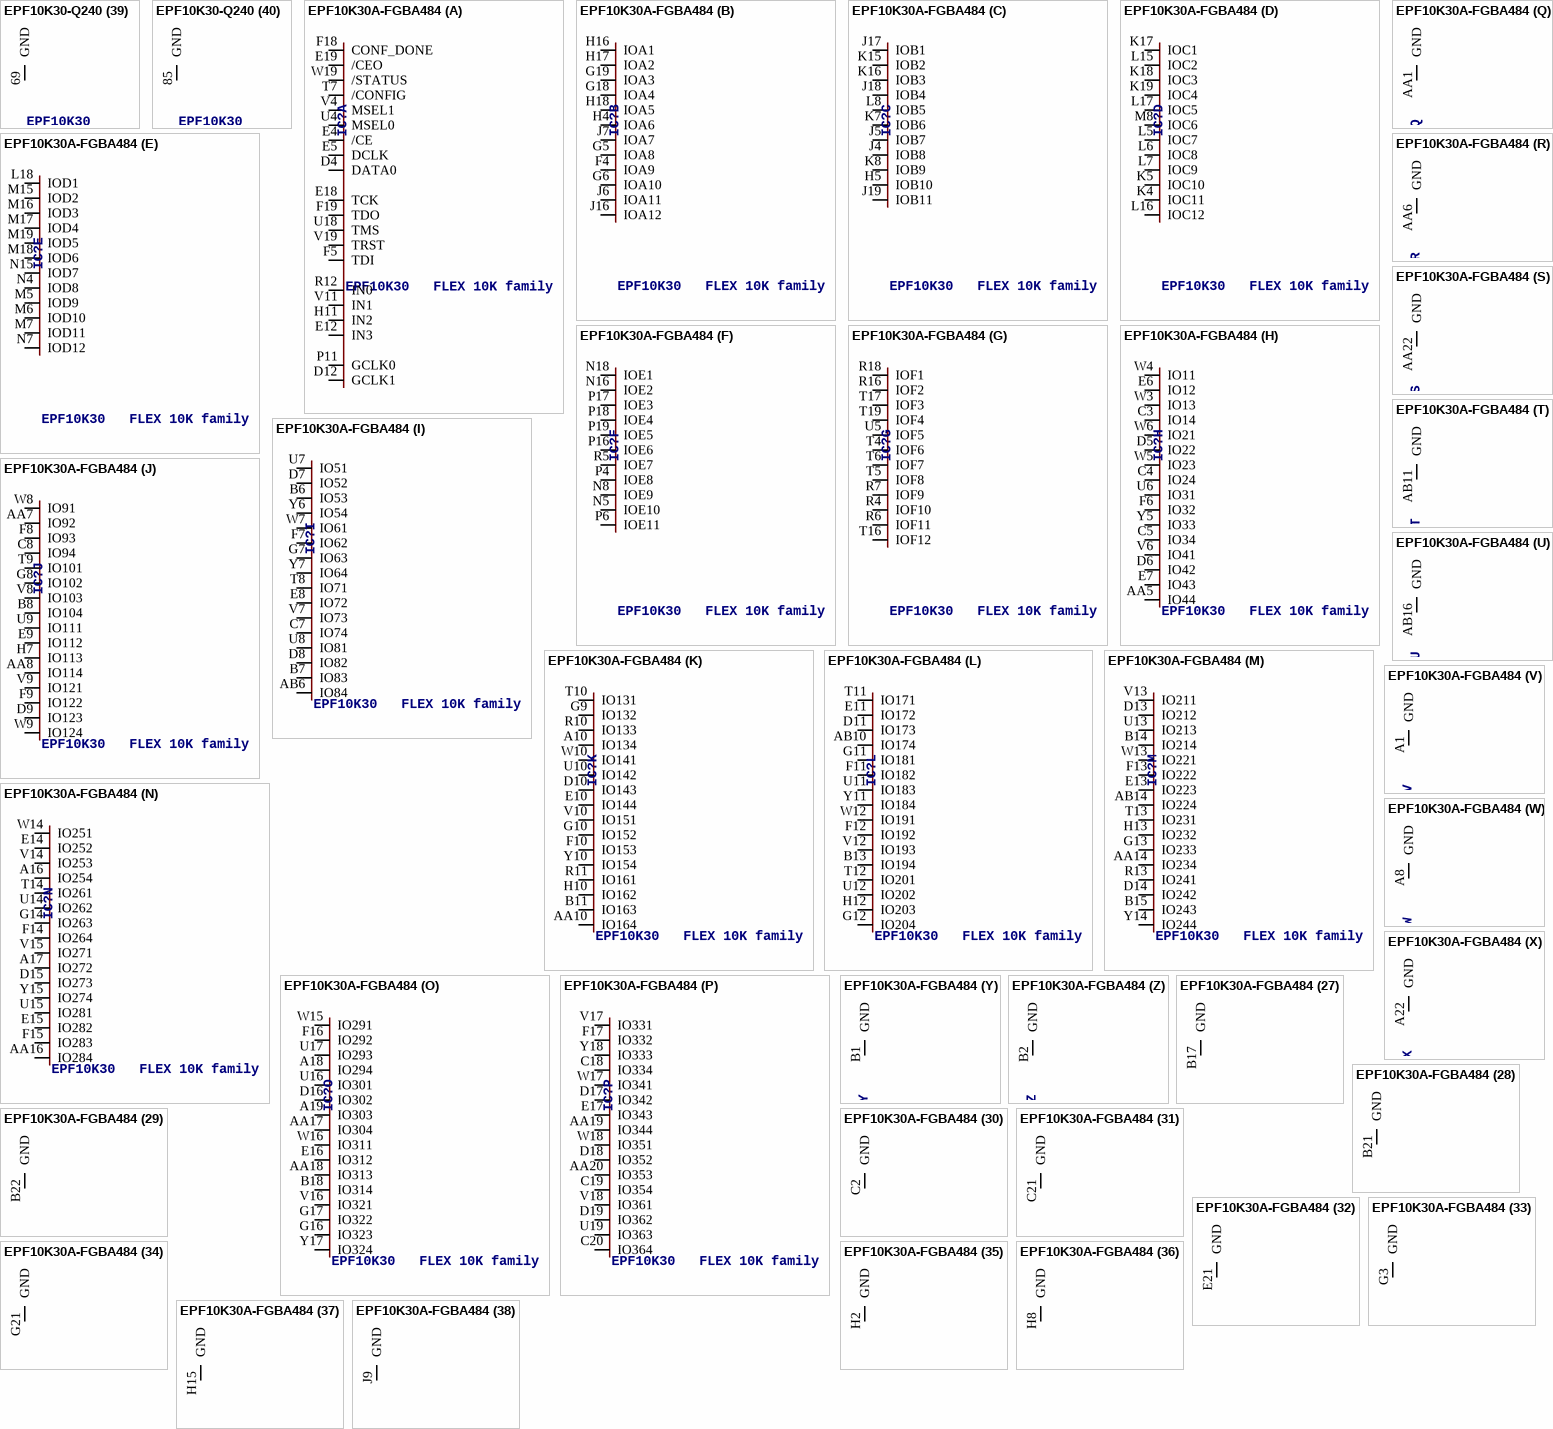
[diagram p10: symbols EPF10K30-Q240 to EPF10K30A-FGBA484]

## EPF10K30-Q240
designator IC?, comment EPF10K30   FLEX 10K family
MPN: EPF10K30AQC240-3N; OC_FARNELL: 1549384; OC_NEWARK: 51R8956
footprint PQFP240
part A pins: 1 TCK, 2 CONF_DONE, 3 /CEO, 4 TDO, 58 TMS, 59 TRST, 60 /STATUS, 90 IN0, 91 GCLK0, 92 IN1, 121 /CONFIG, 123 MSEL1, 124 MSEL0, 177 TDI, 178 /CE, 179 DCLK, 180 DATA0, 210 IN2, 211 GCLK1, 212 IN3
part B pins: 6 IOA1, 7 IOA2, 8 IOA3, 9 IOA4, 11 IOA5, 12 IOA6, 13 IOA7, 169 IOA8, 171 IOA9, 172 IOA10, 173 IOA11, 174 IOA12, 175 IOA13
part C pins: 14 IOB1, 15 IOB2, 17 IOB3, 18 IOB4, 19 IOB5, 20 IOB6, 21 IOB7, 161 IOB8, 162 IOB9, 163 IOB10, 164 IOB11, 166 IOB12, 167 IOB13, 168 IOB14
part D pins: 23 IOC1, 24 IOC2, 25 IOC3, 26 IOC4, 28 IOC5, 29 IOC6, 30 IOC7, 152 IOC8, 153 IOC9, 154 IOC10, 156 IOC11, 157 IOC12, 158 IOC13, 159 IOC14
part E pins: 31 IOD1, 33 IOD2, 34 IOD3, 35 IOD4, 36 IOD5, 38 IOD6, 39 IOD7, 143 IOD8, 144 IOD9, 146 IOD10, 147 IOD11, 148 IOD12, 149 IOD13, 151 IOD14
part F pins: 40 IOE1, 41 IOE2, 43 IOE3, 44 IOE4, 45 IOE5, 46 IOE6, 48 IOE7, 134 IOE8, 136 IOE9, 137 IOE10, 138 IOE11, 139 IOE12, 141 IOE13, 142 IOE14
part G pins: 49 IOF1, 50 IOF2, 51 IOF3, 53 IOF4, 54 IOF5, 55 IOF6, 56 IOF7, 126 IOF8, 127 IOF9, 128 IOF10, 129 IOF11, 131 IOF12, 132 IOF13, 133 IOF14
part H pins: 113 IO61, 114 IO51, 115 IO52, 116 IO41, 117 IO31, 118 IO21, 119 IO22, 120 IO11, 181 IO12, 182 IO23, 183 IO32, 184 IO42, 185 IO43, 186 IO53, 187 IO62, 188 IO63
part I pins: 102 IO121, 103 IO122, 105 IO111, 106 IO101, 107 IO91, 108 IO92, 109 IO81, 110 IO71, 111 IO72, 190 IO73, 191 IO82, 192 IO83, 193 IO93, 194 IO102, 195 IO112, 196 IO113
part J pins: 94 IO181, 95 IO171, 97 IO161, 98 IO151, 99 IO141, 100 IO131, 101 IO132, 198 IO123, 199 IO133, 200 IO142, 201 IO143, 202 IO152, 203 IO153, 204 IO162, 206 IO172, 207 IO173
part K pins: 81 IO231, 82 IO221, 83 IO211, 84 IO212, 86 IO201, 87 IO191, 88 IO192, 208 IO182, 209 IO183, 213 IO193, 214 IO202, 215 IO203, 217 IO213, 218 IO222, 219 IO223, 220 IO232
part L pins: 71 IO291, 72 IO292, 73 IO281, 74 IO271, 75 IO261, 76 IO262, 78 IO251, 79 IO252, 80 IO241, 221 IO233, 222 IO242, 223 IO253, 225 IO263, 226 IO272, 227 IO273, 228 IO282
part M pins: 63 IO351, 64 IO341, 65 IO331, 66 IO321, 67 IO311, 68 IO312, 70 IO301, 229 IO293, 230 IO302, 231 IO303, 233 IO313, 234 IO322, 235 IO323, 236 IO332, 237 IO342, 238 IO343
part N pins: 61 IO361, 62 IO362, 239 IO352, 240 IO363
part O pins: 5 VCC (power)
part P pins: 16 VCC (power)
part Q pins: 27 VCC (power)
part R pins: 37 VCC (power)
part S pins: 47 VCC (power)
part T pins: 57 VCC (power)
part U pins: 77 VCC (power)
part V pins: 89 VCC (power)
part W pins: 96 VCC (power)
part X pins: 112 VCC (power)
part Y pins: 122 VCC (power)
part Z pins: 130 VCC (power)
part 27 pins: 140 VCC (power)
part 28 pins: 150 VCC (power)
part 29 pins: 160 VCC (power)
part 30 pins: 170 VCC (power)
part 31 pins: 189 VCC (power)
part 32 pins: 205 VCC (power)
part 33 pins: 224 VCC (power)
part 34 pins: 10 GND (power)
part 35 pins: 22 GND (power)
part 36 pins: 32 GND (power)
part 37 pins: 42 GND (power)
part 38 pins: 52 GND (power)
part 39 pins: 69 GND (power)
part 40 pins: 85 GND (power)
part 41 pins: 93 GND (power)
part 42 pins: 104 GND (power)
part 43 pins: 125 GND (power)
part 44 pins: 135 GND (power)
part 45 pins: 145 GND (power)
part 46 pins: 155 GND (power)
part 47 pins: 165 GND (power)
part 48 pins: 176 GND (power)
part 49 pins: 197 GND (power)
part 50 pins: 216 GND (power)
part 51 pins: 232 GND (power)

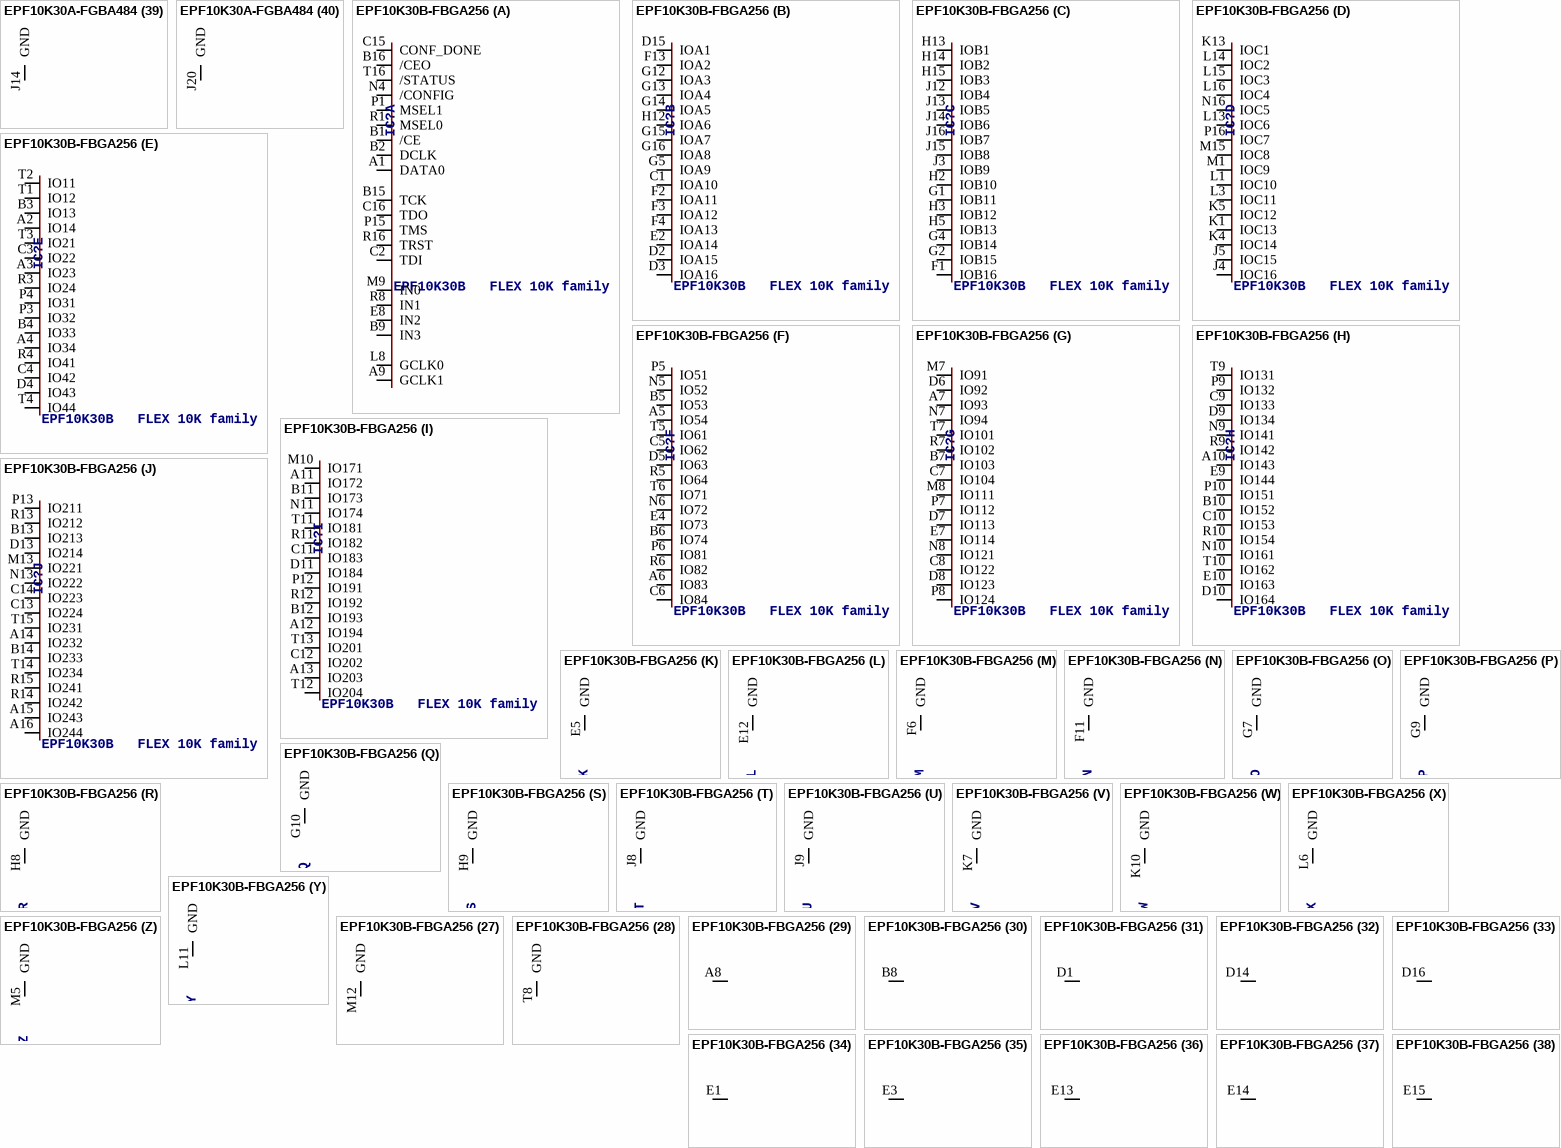
[diagram p11: symbols EPF10K30A-FGBA484 to EPF10K30B-FBGA256]